# Altium integrated library Freescale Semiconductor DSC.IntLib: 124 symbols (part 5 of 7)
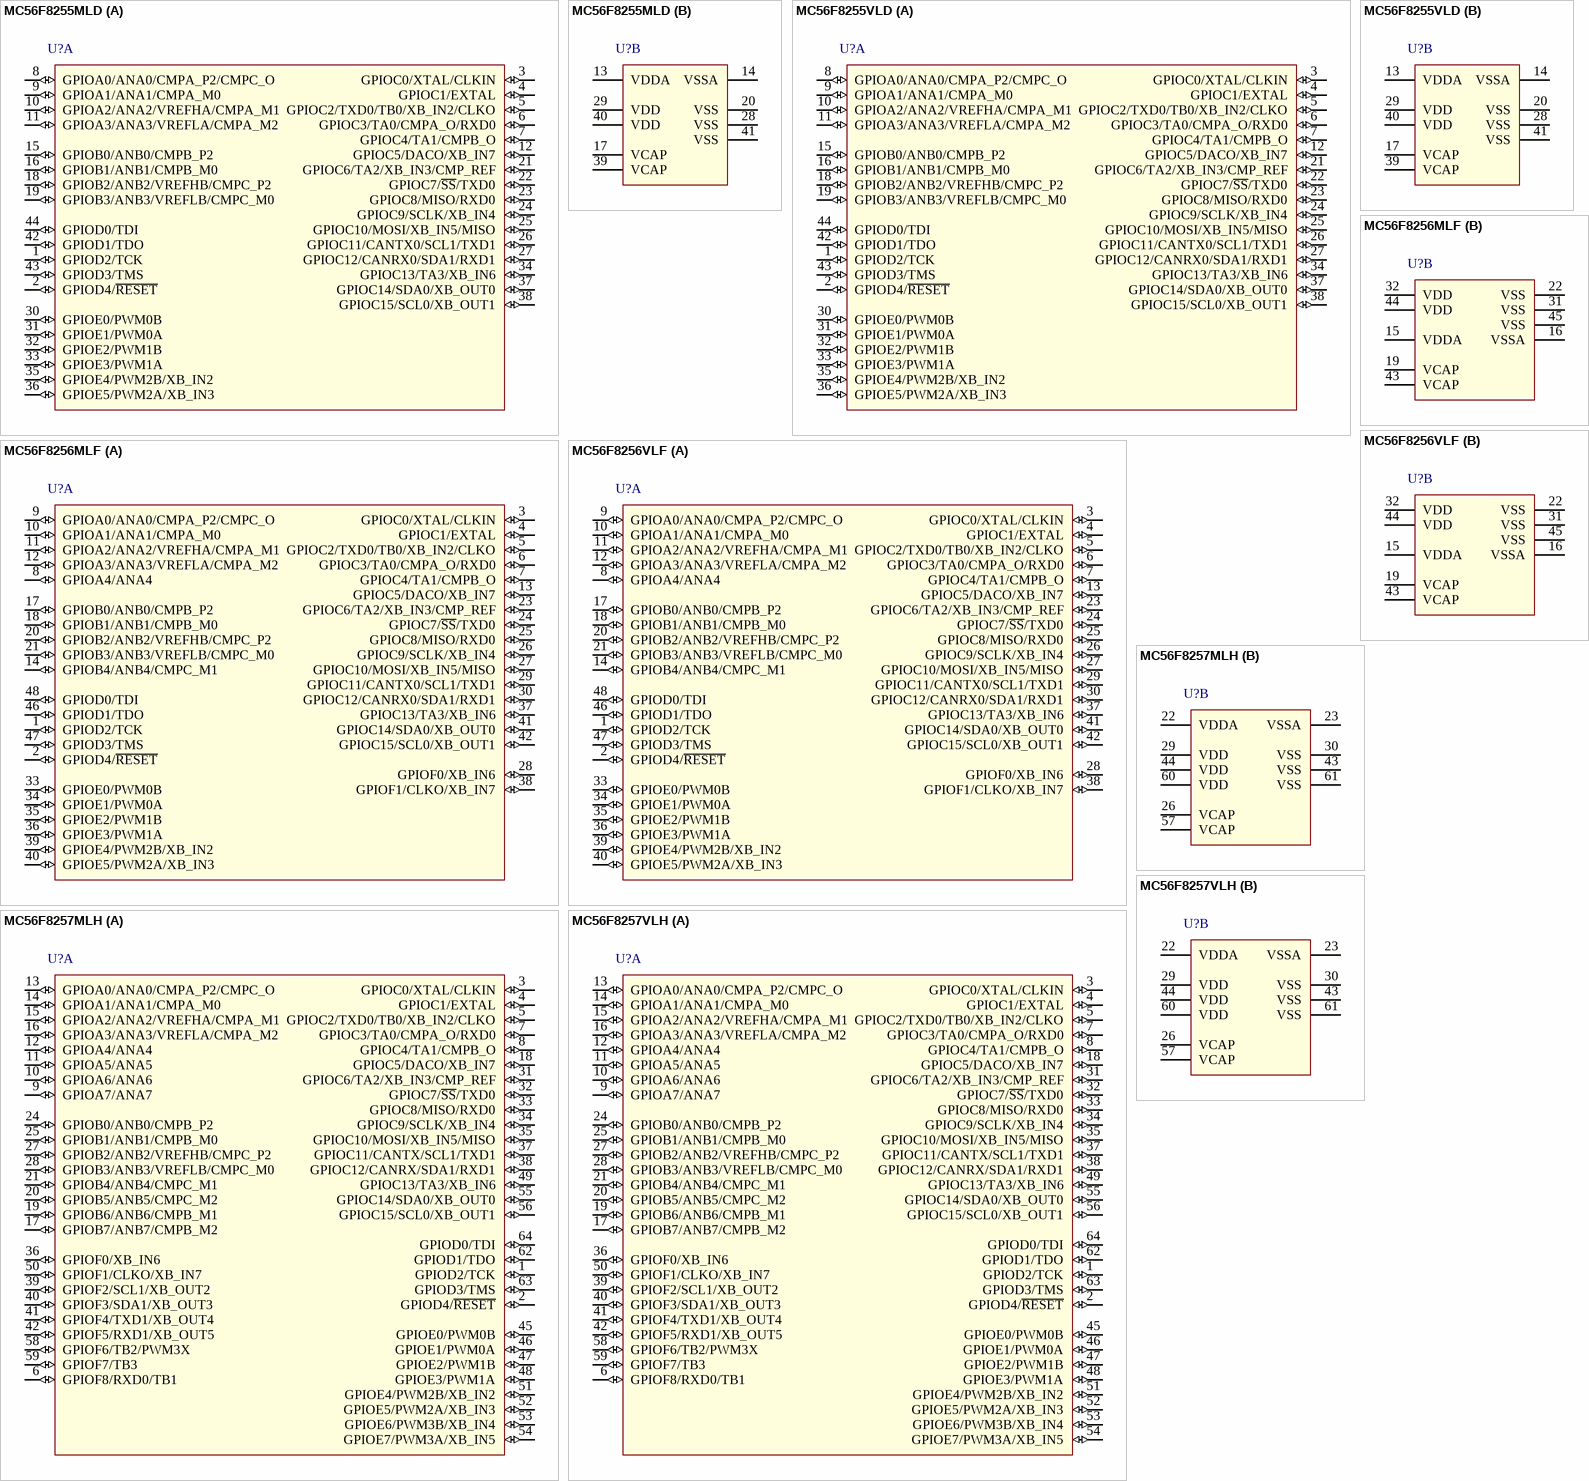
[diagram p38: symbols MC56F8255MLD to MC56F8257VLH]

## MC56F8257MLH
designator U?
16-Bit Digital Signal Controller, 56800E Family, 60MHz, 64KB Program Flash Memory, 8KB RAM, -40°C to 125°C, 64-Pin LQFP; DatasheetVersion: rev3, Apr-2011; PackageVersion: rev6, Mar-2011; PackageReference: 840F-02; PackageDescription: 64-Pin Thin Quad Flat Pack, 10 x 10 mm Body, 0.5 mm Pitch; ComponentLink1Description: Manufacturer URL; ComponentLink1URL: http://www.freescale.com/
footprint 840F-02_N (Thin QFP, 64-Leads, Body 10x10mm, Pitch 0.5mm, IPC Medium Density)
footprint 840F-02_L (Thin QFP, 64-Leads, Body 10x10mm, Pitch 0.5mm, IPC High Density)
footprint 840F-02_M (Thin QFP, 64-Leads, Body 10x10mm, Pitch 0.5mm, IPC Low Density)
part A pins: 1 GPIOD2/TCK (io), 2 GPIOD4/~{RESET} (io), 3 GPIOC0/XTAL/CLKIN (io), 4 GPIOC1/EXTAL (io), 5 GPIOC2/TXD0/TB0/XB_IN2/CLKO (io), 6 GPIOF8/RXD0/TB1 (io), 7 GPIOC3/TA0/CMPA_O/RXD0 (io), 8 GPIOC4/TA1/CMPB_O (io), 9 GPIOA7/ANA7 (io), 10 GPIOA6/ANA6 (io), 11 GPIOA5/ANA5 (io), 12 GPIOA4/ANA4 (io), 13 GPIOA0/ANA0/CMPA_P2/CMPC_O (io), 14 GPIOA1/ANA1/CMPA_M0 (io), 15 GPIOA2/ANA2/VREFHA/CMPA_M1 (io), 16 GPIOA3/ANA3/VREFLA/CMPA_M2 (io), 17 GPIOB7/ANB7/CMPB_M2 (io), 18 GPIOC5/DACO/XB_IN7 (io), 19 GPIOB6/ANB6/CMPB_M1 (io), 20 GPIOB5/ANB5/CMPC_M2 (io), 21 GPIOB4/ANB4/CMPC_M1 (io), 24 GPIOB0/ANB0/CMPB_P2 (io), 25 GPIOB1/ANB1/CMPB_M0 (io), 27 GPIOB2/ANB2/VREFHB/CMPC_P2 (io), 28 GPIOB3/ANB3/VREFLB/CMPC_M0 (io), 31 GPIOC6/TA2/XB_IN3/CMP_REF (io), 32 GPIOC7/~{SS}/TXD0 (io), 33 GPIOC8/MISO/RXD0 (io), 34 GPIOC9/SCLK/XB_IN4 (io), 35 GPIOC10/MOSI/XB_IN5/MISO (io), 36 GPIOF0/XB_IN6 (io), 37 GPIOC11/CANTX/SCL1/TXD1 (io), 38 GPIOC12/CANRX/SDA1/RXD1 (io), 39 GPIOF2/SCL1/XB_OUT2 (io), 40 GPIOF3/SDA1/XB_OUT3 (io), 41 GPIOF4/TXD1/XB_OUT4 (io), 42 GPIOF5/RXD1/XB_OUT5 (io), 45 GPIOE0/PWM0B (io), 46 GPIOE1/PWM0A (io), 47 GPIOE2/PWM1B (io), 48 GPIOE3/PWM1A (io), 49 GPIOC13/TA3/XB_IN6 (io), 50 GPIOF1/CLKO/XB_IN7 (io), 51 GPIOE4/PWM2B/XB_IN2 (io), 52 GPIOE5/PWM2A/XB_IN3 (io), 53 GPIOE6/PWM3B/XB_IN4 (io), 54 GPIOE7/PWM3A/XB_IN5 (io), 55 GPIOC14/SDA0/XB_OUT0 (io), 56 GPIOC15/SCL0/XB_OUT1 (io), 58 GPIOF6/TB2/PWM3X (io), 59 GPIOF7/TB3 (io), 62 GPIOD1/TDO (io), 63 GPIOD3/TMS (io), 64 GPIOD0/TDI (io)
part B pins: 22 VDDA (power), 23 VSSA (power), 26 VCAP (power), 29 VDD (power), 30 VSS (power), 43 VSS (power), 44 VDD (power), 57 VCAP (power), 60 VDD (power), 61 VSS (power)

## MC56F8257VLH
designator U?
16-Bit Digital Signal Controller, 56800E Family, 60MHz, 64KB Program Flash Memory, 8KB RAM, -40°C to 105°C, 64-Pin LQFP; DatasheetVersion: rev3, Apr-2011; PackageVersion: rev6, Mar-2011; PackageReference: 840F-02; PackageDescription: 64-Pin Thin Quad Flat Pack, 10 x 10 mm Body, 0.5 mm Pitch; ComponentLink1Description: Manufacturer URL; ComponentLink1URL: http://www.freescale.com/
footprint 840F-02_N (Thin QFP, 64-Leads, Body 10x10mm, Pitch 0.5mm, IPC Medium Density)
footprint 840F-02_L (Thin QFP, 64-Leads, Body 10x10mm, Pitch 0.5mm, IPC High Density)
footprint 840F-02_M (Thin QFP, 64-Leads, Body 10x10mm, Pitch 0.5mm, IPC Low Density)
part A pins: 1 GPIOD2/TCK (io), 2 GPIOD4/~{RESET} (io), 3 GPIOC0/XTAL/CLKIN (io), 4 GPIOC1/EXTAL (io), 5 GPIOC2/TXD0/TB0/XB_IN2/CLKO (io), 6 GPIOF8/RXD0/TB1 (io), 7 GPIOC3/TA0/CMPA_O/RXD0 (io), 8 GPIOC4/TA1/CMPB_O (io), 9 GPIOA7/ANA7 (io), 10 GPIOA6/ANA6 (io), 11 GPIOA5/ANA5 (io), 12 GPIOA4/ANA4 (io), 13 GPIOA0/ANA0/CMPA_P2/CMPC_O (io), 14 GPIOA1/ANA1/CMPA_M0 (io), 15 GPIOA2/ANA2/VREFHA/CMPA_M1 (io), 16 GPIOA3/ANA3/VREFLA/CMPA_M2 (io), 17 GPIOB7/ANB7/CMPB_M2 (io), 18 GPIOC5/DACO/XB_IN7 (io), 19 GPIOB6/ANB6/CMPB_M1 (io), 20 GPIOB5/ANB5/CMPC_M2 (io), 21 GPIOB4/ANB4/CMPC_M1 (io), 24 GPIOB0/ANB0/CMPB_P2 (io), 25 GPIOB1/ANB1/CMPB_M0 (io), 27 GPIOB2/ANB2/VREFHB/CMPC_P2 (io), 28 GPIOB3/ANB3/VREFLB/CMPC_M0 (io), 31 GPIOC6/TA2/XB_IN3/CMP_REF (io), 32 GPIOC7/~{SS}/TXD0 (io), 33 GPIOC8/MISO/RXD0 (io), 34 GPIOC9/SCLK/XB_IN4 (io), 35 GPIOC10/MOSI/XB_IN5/MISO (io), 36 GPIOF0/XB_IN6 (io), 37 GPIOC11/CANTX/SCL1/TXD1 (io), 38 GPIOC12/CANRX/SDA1/RXD1 (io), 39 GPIOF2/SCL1/XB_OUT2 (io), 40 GPIOF3/SDA1/XB_OUT3 (io), 41 GPIOF4/TXD1/XB_OUT4 (io), 42 GPIOF5/RXD1/XB_OUT5 (io), 45 GPIOE0/PWM0B (io), 46 GPIOE1/PWM0A (io), 47 GPIOE2/PWM1B (io), 48 GPIOE3/PWM1A (io), 49 GPIOC13/TA3/XB_IN6 (io), 50 GPIOF1/CLKO/XB_IN7 (io), 51 GPIOE4/PWM2B/XB_IN2 (io), 52 GPIOE5/PWM2A/XB_IN3 (io), 53 GPIOE6/PWM3B/XB_IN4 (io), 54 GPIOE7/PWM3A/XB_IN5 (io), 55 GPIOC14/SDA0/XB_OUT0 (io), 56 GPIOC15/SCL0/XB_OUT1 (io), 58 GPIOF6/TB2/PWM3X (io), 59 GPIOF7/TB3 (io), 62 GPIOD1/TDO (io), 63 GPIOD3/TMS (io), 64 GPIOD0/TDI (io)
part B pins: 22 VDDA (power), 23 VSSA (power), 26 VCAP (power), 29 VDD (power), 30 VSS (power), 43 VSS (power), 44 VDD (power), 57 VCAP (power), 60 VDD (power), 61 VSS (power)

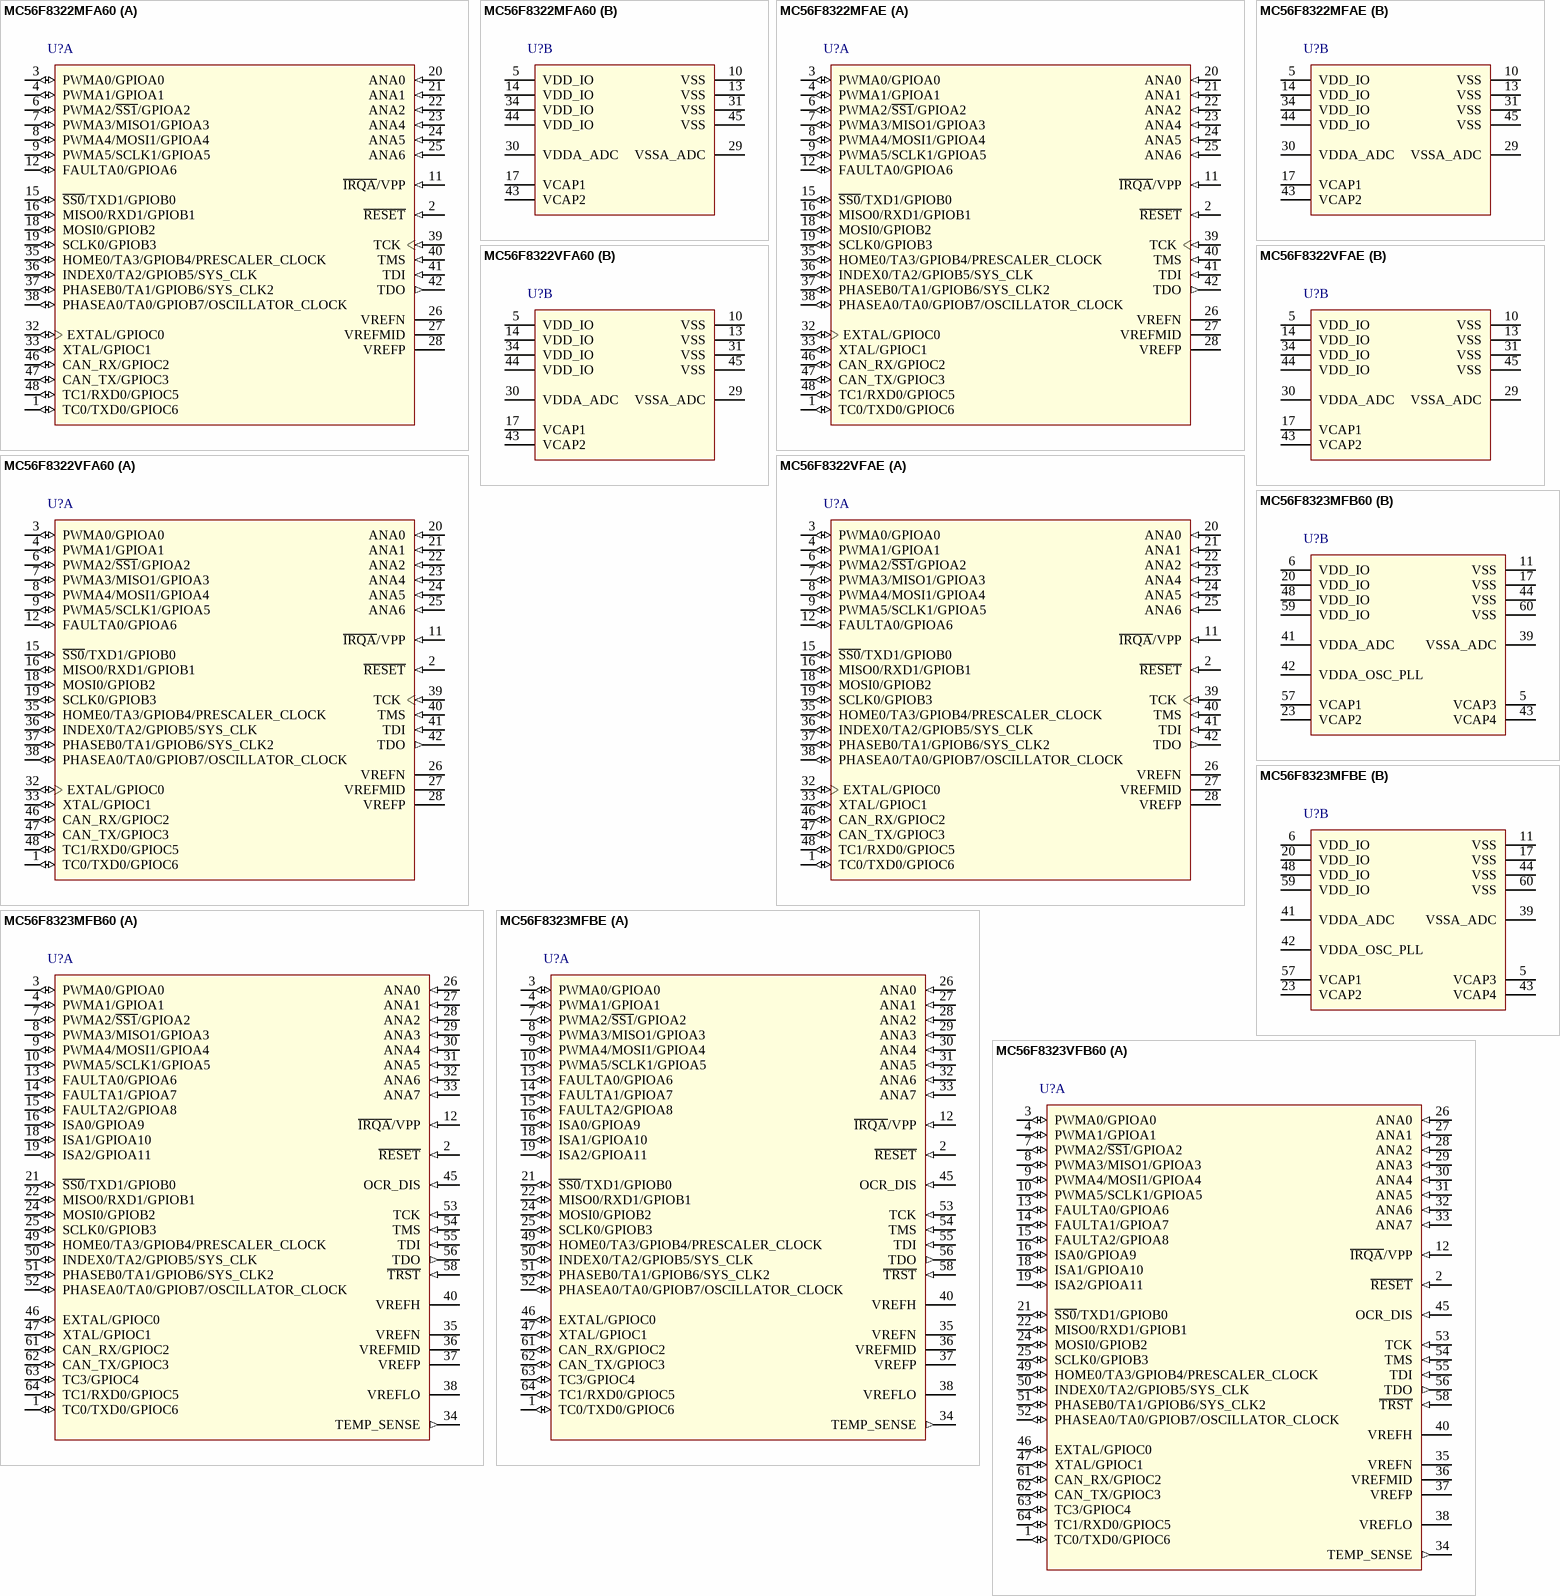
[diagram p20: symbols MC56F8322MFA60 to MC56F8323VFB60]

## MC56F8322MFA60
designator U?
16-Bit Digital Signal Controller, 56800E Family,  60 MHz, 12KB RAM, 48KB Flash, 3.0–3.6 V, -40° to + 125° C, 48-Pin LQFP; DatasheetVersion: rev16, Apr-2007; PackageVersion: revG, Apr-2005; PackageReference: 932-03; PackageDescription: LQFP, 48 Lead, 7 x 7 x 1.4mm, 0.5mm Pitch; Code_JEDEC: MS-026-BBC; ComponentLink1Description: Manufacturer URL; ComponentLink1URL: http://www.freescale.com/; ComponentLink2Description: Datasheet; ComponentLink2URL: http://cache.freescale.com/files/dsp/doc/data_sheet/MC56F8322.pdf?fpsp=1
footprint 932-03_N (Thin QFP, 48-Leads, Body 7x7mm, Pitch 0.5mm, IPC Medium Density)
footprint 932-03_L (Thin QFP, 48-Leads, Body 7x7mm, Pitch 0.5mm, IPC High Density)
footprint 932-03_M (Thin QFP, 48-Leads, Body 7x7mm, Pitch 0.5mm, IPC Low Density)
part A pins: 1 TC0/TXD0/GPIOC6 (io), 2 ~{RESET} (in), 3 PWMA0/GPIOA0 (io), 4 PWMA1/GPIOA1 (io), 6 PWMA2/~{SS1}/GPIOA2 (io), 7 PWMA3/MISO1/GPIOA3 (io), 8 PWMA4/MOSI1/GPIOA4 (io), 9 PWMA5/SCLK1/GPIOA5 (io), 11 ~{IRQA}/VPP (in), 12 FAULTA0/GPIOA6 (io), 15 ~{SS0}/TXD1/GPIOB0 (io), 16 MISO0/RXD1/GPIOB1 (io), 18 MOSI0/GPIOB2 (io), 19 SCLK0/GPIOB3 (io), 20 ANA0 (in), 21 ANA1 (in), 22 ANA2 (in), 23 ANA4 (in), 24 ANA5 (in), 25 ANA6 (in), 26 VREFN, 27 VREFMID, 28 VREFP, 32 EXTAL/GPIOC0 (io), 33 XTAL/GPIOC1 (io), 35 HOME0/TA3/GPIOB4/PRESCALER_CLOCK (io), 36 INDEX0/TA2/GPIOB5/SYS_CLK (io), 37 PHASEB0/TA1/GPIOB6/SYS_CLK2 (io), 38 PHASEA0/TA0/GPIOB7/OSCILLATOR_CLOCK (io), 39 TCK (in), 40 TMS (in), 41 TDI (in), 42 TDO (out), 46 CAN_RX/GPIOC2 (io), 47 CAN_TX/GPIOC3 (io), 48 TC1/RXD0/GPIOC5 (io)
part B pins: 5 VDD_IO (power), 10 VSS (power), 13 VSS (power), 14 VDD_IO (power), 17 VCAP1 (power), 29 VSSA_ADC (power), 30 VDDA_ADC (power), 31 VSS (power), 34 VDD_IO (power), 43 VCAP2 (power), 44 VDD_IO (power), 45 VSS (power)

## MC56F8322MFAE
designator U?
16-Bit Digital Signal Controller, 56800E Family,  60 MHz, 12KB RAM, 48KB Flash, 3.0–3.6 V, -40° to + 125° C, 48-Pin LQFP; DatasheetVersion: rev16, Apr-2007; PackageVersion: revG, Apr-2005; PackageReference: 932-03; PackageDescription: LQFP, 48 Lead, 7 x 7 x 1.4mm, 0.5mm Pitch; Code_JEDEC: MS-026-BBC; ComponentLink1Description: Manufacturer URL; ComponentLink1URL: http://www.freescale.com/; ComponentLink2Description: Datasheet; ComponentLink2URL: http://cache.freescale.com/files/dsp/doc/data_sheet/MC56F8322.pdf?fpsp=1
footprint 932-03_N (Thin QFP, 48-Leads, Body 7x7mm, Pitch 0.5mm, IPC Medium Density)
footprint 932-03_L (Thin QFP, 48-Leads, Body 7x7mm, Pitch 0.5mm, IPC High Density)
footprint 932-03_M (Thin QFP, 48-Leads, Body 7x7mm, Pitch 0.5mm, IPC Low Density)
part A pins: 1 TC0/TXD0/GPIOC6 (io), 2 ~{RESET} (in), 3 PWMA0/GPIOA0 (io), 4 PWMA1/GPIOA1 (io), 6 PWMA2/~{SS1}/GPIOA2 (io), 7 PWMA3/MISO1/GPIOA3 (io), 8 PWMA4/MOSI1/GPIOA4 (io), 9 PWMA5/SCLK1/GPIOA5 (io), 11 ~{IRQA}/VPP (in), 12 FAULTA0/GPIOA6 (io), 15 ~{SS0}/TXD1/GPIOB0 (io), 16 MISO0/RXD1/GPIOB1 (io), 18 MOSI0/GPIOB2 (io), 19 SCLK0/GPIOB3 (io), 20 ANA0 (in), 21 ANA1 (in), 22 ANA2 (in), 23 ANA4 (in), 24 ANA5 (in), 25 ANA6 (in), 26 VREFN, 27 VREFMID, 28 VREFP, 32 EXTAL/GPIOC0 (io), 33 XTAL/GPIOC1 (io), 35 HOME0/TA3/GPIOB4/PRESCALER_CLOCK (io), 36 INDEX0/TA2/GPIOB5/SYS_CLK (io), 37 PHASEB0/TA1/GPIOB6/SYS_CLK2 (io), 38 PHASEA0/TA0/GPIOB7/OSCILLATOR_CLOCK (io), 39 TCK (in), 40 TMS (in), 41 TDI (in), 42 TDO (out), 46 CAN_RX/GPIOC2 (io), 47 CAN_TX/GPIOC3 (io), 48 TC1/RXD0/GPIOC5 (io)
part B pins: 5 VDD_IO (power), 10 VSS (power), 13 VSS (power), 14 VDD_IO (power), 17 VCAP1 (power), 29 VSSA_ADC (power), 30 VDDA_ADC (power), 31 VSS (power), 34 VDD_IO (power), 43 VCAP2 (power), 44 VDD_IO (power), 45 VSS (power)

## MC56F8322VFA60
designator U?
16-Bit Digital Signal Controller, 56800E Family,  60 MHz, 12KB RAM, 48KB Flash, 3.0–3.6 V, -40° to + 105° C, 48-Pin LQFP; DatasheetVersion: rev16, Apr-2007; PackageVersion: revG, Apr-2005; PackageReference: 932-03; PackageDescription: LQFP, 48 Lead, 7 x 7 x 1.4mm, 0.5mm Pitch; Code_JEDEC: MS-026-BBC; ComponentLink1Description: Manufacturer URL; ComponentLink1URL: http://www.freescale.com/; ComponentLink2Description: Datasheet; ComponentLink2URL: http://cache.freescale.com/files/dsp/doc/data_sheet/MC56F8322.pdf?fpsp=1
footprint 932-03_N (Thin QFP, 48-Leads, Body 7x7mm, Pitch 0.5mm, IPC Medium Density)
footprint 932-03_L (Thin QFP, 48-Leads, Body 7x7mm, Pitch 0.5mm, IPC High Density)
footprint 932-03_M (Thin QFP, 48-Leads, Body 7x7mm, Pitch 0.5mm, IPC Low Density)
part A pins: 1 TC0/TXD0/GPIOC6 (io), 2 ~{RESET} (in), 3 PWMA0/GPIOA0 (io), 4 PWMA1/GPIOA1 (io), 6 PWMA2/~{SS1}/GPIOA2 (io), 7 PWMA3/MISO1/GPIOA3 (io), 8 PWMA4/MOSI1/GPIOA4 (io), 9 PWMA5/SCLK1/GPIOA5 (io), 11 ~{IRQA}/VPP (in), 12 FAULTA0/GPIOA6 (io), 15 ~{SS0}/TXD1/GPIOB0 (io), 16 MISO0/RXD1/GPIOB1 (io), 18 MOSI0/GPIOB2 (io), 19 SCLK0/GPIOB3 (io), 20 ANA0 (in), 21 ANA1 (in), 22 ANA2 (in), 23 ANA4 (in), 24 ANA5 (in), 25 ANA6 (in), 26 VREFN, 27 VREFMID, 28 VREFP, 32 EXTAL/GPIOC0 (io), 33 XTAL/GPIOC1 (io), 35 HOME0/TA3/GPIOB4/PRESCALER_CLOCK (io), 36 INDEX0/TA2/GPIOB5/SYS_CLK (io), 37 PHASEB0/TA1/GPIOB6/SYS_CLK2 (io), 38 PHASEA0/TA0/GPIOB7/OSCILLATOR_CLOCK (io), 39 TCK (in), 40 TMS (in), 41 TDI (in), 42 TDO (out), 46 CAN_RX/GPIOC2 (io), 47 CAN_TX/GPIOC3 (io), 48 TC1/RXD0/GPIOC5 (io)
part B pins: 5 VDD_IO (power), 10 VSS (power), 13 VSS (power), 14 VDD_IO (power), 17 VCAP1 (power), 29 VSSA_ADC (power), 30 VDDA_ADC (power), 31 VSS (power), 34 VDD_IO (power), 43 VCAP2 (power), 44 VDD_IO (power), 45 VSS (power)

## MC56F8322VFAE
designator U?
16-Bit Digital Signal Controller, 56800E Family,  60 MHz, 12KB RAM, 48KB Flash, 3.0–3.6 V, -40° to + 105° C, 48-Pin LQFP; DatasheetVersion: rev16, Apr-2007; PackageVersion: revG, Apr-2005; PackageReference: 932-03; PackageDescription: LQFP, 48 Lead, 7 x 7 x 1.4mm, 0.5mm Pitch; Code_JEDEC: MS-026-BBC; ComponentLink1Description: Manufacturer URL; ComponentLink1URL: http://www.freescale.com/; ComponentLink2Description: Datasheet; ComponentLink2URL: http://cache.freescale.com/files/dsp/doc/data_sheet/MC56F8322.pdf?fpsp=1
footprint 932-03_N (Thin QFP, 48-Leads, Body 7x7mm, Pitch 0.5mm, IPC Medium Density)
footprint 932-03_L (Thin QFP, 48-Leads, Body 7x7mm, Pitch 0.5mm, IPC High Density)
footprint 932-03_M (Thin QFP, 48-Leads, Body 7x7mm, Pitch 0.5mm, IPC Low Density)
part A pins: 1 TC0/TXD0/GPIOC6 (io), 2 ~{RESET} (in), 3 PWMA0/GPIOA0 (io), 4 PWMA1/GPIOA1 (io), 6 PWMA2/~{SS1}/GPIOA2 (io), 7 PWMA3/MISO1/GPIOA3 (io), 8 PWMA4/MOSI1/GPIOA4 (io), 9 PWMA5/SCLK1/GPIOA5 (io), 11 ~{IRQA}/VPP (in), 12 FAULTA0/GPIOA6 (io), 15 ~{SS0}/TXD1/GPIOB0 (io), 16 MISO0/RXD1/GPIOB1 (io), 18 MOSI0/GPIOB2 (io), 19 SCLK0/GPIOB3 (io), 20 ANA0 (in), 21 ANA1 (in), 22 ANA2 (in), 23 ANA4 (in), 24 ANA5 (in), 25 ANA6 (in), 26 VREFN, 27 VREFMID, 28 VREFP, 32 EXTAL/GPIOC0 (io), 33 XTAL/GPIOC1 (io), 35 HOME0/TA3/GPIOB4/PRESCALER_CLOCK (io), 36 INDEX0/TA2/GPIOB5/SYS_CLK (io), 37 PHASEB0/TA1/GPIOB6/SYS_CLK2 (io), 38 PHASEA0/TA0/GPIOB7/OSCILLATOR_CLOCK (io), 39 TCK (in), 40 TMS (in), 41 TDI (in), 42 TDO (out), 46 CAN_RX/GPIOC2 (io), 47 CAN_TX/GPIOC3 (io), 48 TC1/RXD0/GPIOC5 (io)
part B pins: 5 VDD_IO (power), 10 VSS (power), 13 VSS (power), 14 VDD_IO (power), 17 VCAP1 (power), 29 VSSA_ADC (power), 30 VDDA_ADC (power), 31 VSS (power), 34 VDD_IO (power), 43 VCAP2 (power), 44 VDD_IO (power), 45 VSS (power)

## MC56F8323MFB60
designator U?
16-Bit Digital Signal Controller, 56800E Family,  60 MHz, 12KB RAM, 32KB Flash, 3.0–3.6 V, -40° to + 125° C, 64-Pin LQFP; DatasheetVersion: rev17, Apr-2007; PackageVersion: rev6, Mar-2011; PackageReference: 840F-02; PackageDescription: 64-Pin Thin Quad Flat Pack, 10 x 10 mm Body, 0.5 mm Pitch; ComponentLink1Description: Manufacturer URL; ComponentLink1URL: http://www.freescale.com/; ComponentLink2Description: Datasheet; ComponentLink2URL: http://cache.freescale.com/files/dsp/doc/data_sheet/MC56F8323.pdf?fpsp=1
footprint 840F-02_N (Thin QFP, 64-Leads, Body 10x10mm, Pitch 0.5mm, IPC Medium Density)
footprint 840F-02_L (Thin QFP, 64-Leads, Body 10x10mm, Pitch 0.5mm, IPC High Density)
footprint 840F-02_M (Thin QFP, 64-Leads, Body 10x10mm, Pitch 0.5mm, IPC Low Density)
part A pins: 1 TC0/TXD0/GPIOC6 (io), 2 ~{RESET} (in), 3 PWMA0/GPIOA0 (io), 4 PWMA1/GPIOA1 (io), 7 PWMA2/~{SS1}/GPIOA2 (io), 8 PWMA3/MISO1/GPIOA3 (io), 9 PWMA4/MOSI1/GPIOA4 (io), 10 PWMA5/SCLK1/GPIOA5 (io), 12 ~{IRQA}/VPP (in), 13 FAULTA0/GPIOA6 (io), 14 FAULTA1/GPIOA7 (io), 15 FAULTA2/GPIOA8 (io), 16 ISA0/GPIOA9 (io), 18 ISA1/GPIOA10 (io), 19 ISA2/GPIOA11 (io), 21 ~{SS0}/TXD1/GPIOB0 (io), 22 MISO0/RXD1/GPIOB1 (io), 24 MOSI0/GPIOB2 (io), 25 SCLK0/GPIOB3 (io), 26 ANA0 (in), 27 ANA1 (in), 28 ANA2 (in), 29 ANA3 (in), 30 ANA4 (in), 31 ANA5 (in), 32 ANA6 (in), 33 ANA7 (in), 34 TEMP_SENSE (out), 35 VREFN, 36 VREFMID, 37 VREFP, 38 VREFLO, 40 VREFH, 45 OCR_DIS (in), 46 EXTAL/GPIOC0 (io), 47 XTAL/GPIOC1 (io), 49 HOME0/TA3/GPIOB4/PRESCALER_CLOCK (io), 50 INDEX0/TA2/GPIOB5/SYS_CLK (io), 51 PHASEB0/TA1/GPIOB6/SYS_CLK2 (io), 52 PHASEA0/TA0/GPIOB7/OSCILLATOR_CLOCK (io), 53 TCK (in), 54 TMS (in), 55 TDI (in), 56 TDO (out), 58 ~{TRST} (in), 61 CAN_RX/GPIOC2 (io), 62 CAN_TX/GPIOC3 (io), 63 TC3/GPIOC4 (io), 64 TC1/RXD0/GPIOC5 (io)
part B pins: 5 VCAP3 (power), 6 VDD_IO (power), 11 VSS (power), 17 VSS (power), 20 VDD_IO (power), 23 VCAP2 (power), 39 VSSA_ADC (power), 41 VDDA_ADC (power), 42 VDDA_OSC_PLL (power), 43 VCAP4 (power), 44 VSS (power), 48 VDD_IO (power), 57 VCAP1 (power), 59 VDD_IO (power), 60 VSS (power)

## MC56F8323MFBE
designator U?
16-Bit Digital Signal Controller, 56800E Family,  60 MHz, 12KB RAM, 32KB Flash, 3.0–3.6 V, -40° to + 125° C, 64-Pin LQFP; DatasheetVersion: rev17, Apr-2007; PackageVersion: rev6, Mar-2011; PackageReference: 840F-02; PackageDescription: 64-Pin Thin Quad Flat Pack, 10 x 10 mm Body, 0.5 mm Pitch; ComponentLink1Description: Manufacturer URL; ComponentLink1URL: http://www.freescale.com/; ComponentLink2Description: Datasheet; ComponentLink2URL: http://cache.freescale.com/files/dsp/doc/data_sheet/MC56F8323.pdf?fpsp=1
footprint 840F-02_N (Thin QFP, 64-Leads, Body 10x10mm, Pitch 0.5mm, IPC Medium Density)
footprint 840F-02_L (Thin QFP, 64-Leads, Body 10x10mm, Pitch 0.5mm, IPC High Density)
footprint 840F-02_M (Thin QFP, 64-Leads, Body 10x10mm, Pitch 0.5mm, IPC Low Density)
part A pins: 1 TC0/TXD0/GPIOC6 (io), 2 ~{RESET} (in), 3 PWMA0/GPIOA0 (io), 4 PWMA1/GPIOA1 (io), 7 PWMA2/~{SS1}/GPIOA2 (io), 8 PWMA3/MISO1/GPIOA3 (io), 9 PWMA4/MOSI1/GPIOA4 (io), 10 PWMA5/SCLK1/GPIOA5 (io), 12 ~{IRQA}/VPP (in), 13 FAULTA0/GPIOA6 (io), 14 FAULTA1/GPIOA7 (io), 15 FAULTA2/GPIOA8 (io), 16 ISA0/GPIOA9 (io), 18 ISA1/GPIOA10 (io), 19 ISA2/GPIOA11 (io), 21 ~{SS0}/TXD1/GPIOB0 (io), 22 MISO0/RXD1/GPIOB1 (io), 24 MOSI0/GPIOB2 (io), 25 SCLK0/GPIOB3 (io), 26 ANA0 (in), 27 ANA1 (in), 28 ANA2 (in), 29 ANA3 (in), 30 ANA4 (in), 31 ANA5 (in), 32 ANA6 (in), 33 ANA7 (in), 34 TEMP_SENSE (out), 35 VREFN, 36 VREFMID, 37 VREFP, 38 VREFLO, 40 VREFH, 45 OCR_DIS (in), 46 EXTAL/GPIOC0 (io), 47 XTAL/GPIOC1 (io), 49 HOME0/TA3/GPIOB4/PRESCALER_CLOCK (io), 50 INDEX0/TA2/GPIOB5/SYS_CLK (io), 51 PHASEB0/TA1/GPIOB6/SYS_CLK2 (io), 52 PHASEA0/TA0/GPIOB7/OSCILLATOR_CLOCK (io), 53 TCK (in), 54 TMS (in), 55 TDI (in), 56 TDO (out), 58 ~{TRST} (in), 61 CAN_RX/GPIOC2 (io), 62 CAN_TX/GPIOC3 (io), 63 TC3/GPIOC4 (io), 64 TC1/RXD0/GPIOC5 (io)
part B pins: 5 VCAP3 (power), 6 VDD_IO (power), 11 VSS (power), 17 VSS (power), 20 VDD_IO (power), 23 VCAP2 (power), 39 VSSA_ADC (power), 41 VDDA_ADC (power), 42 VDDA_OSC_PLL (power), 43 VCAP4 (power), 44 VSS (power), 48 VDD_IO (power), 57 VCAP1 (power), 59 VDD_IO (power), 60 VSS (power)

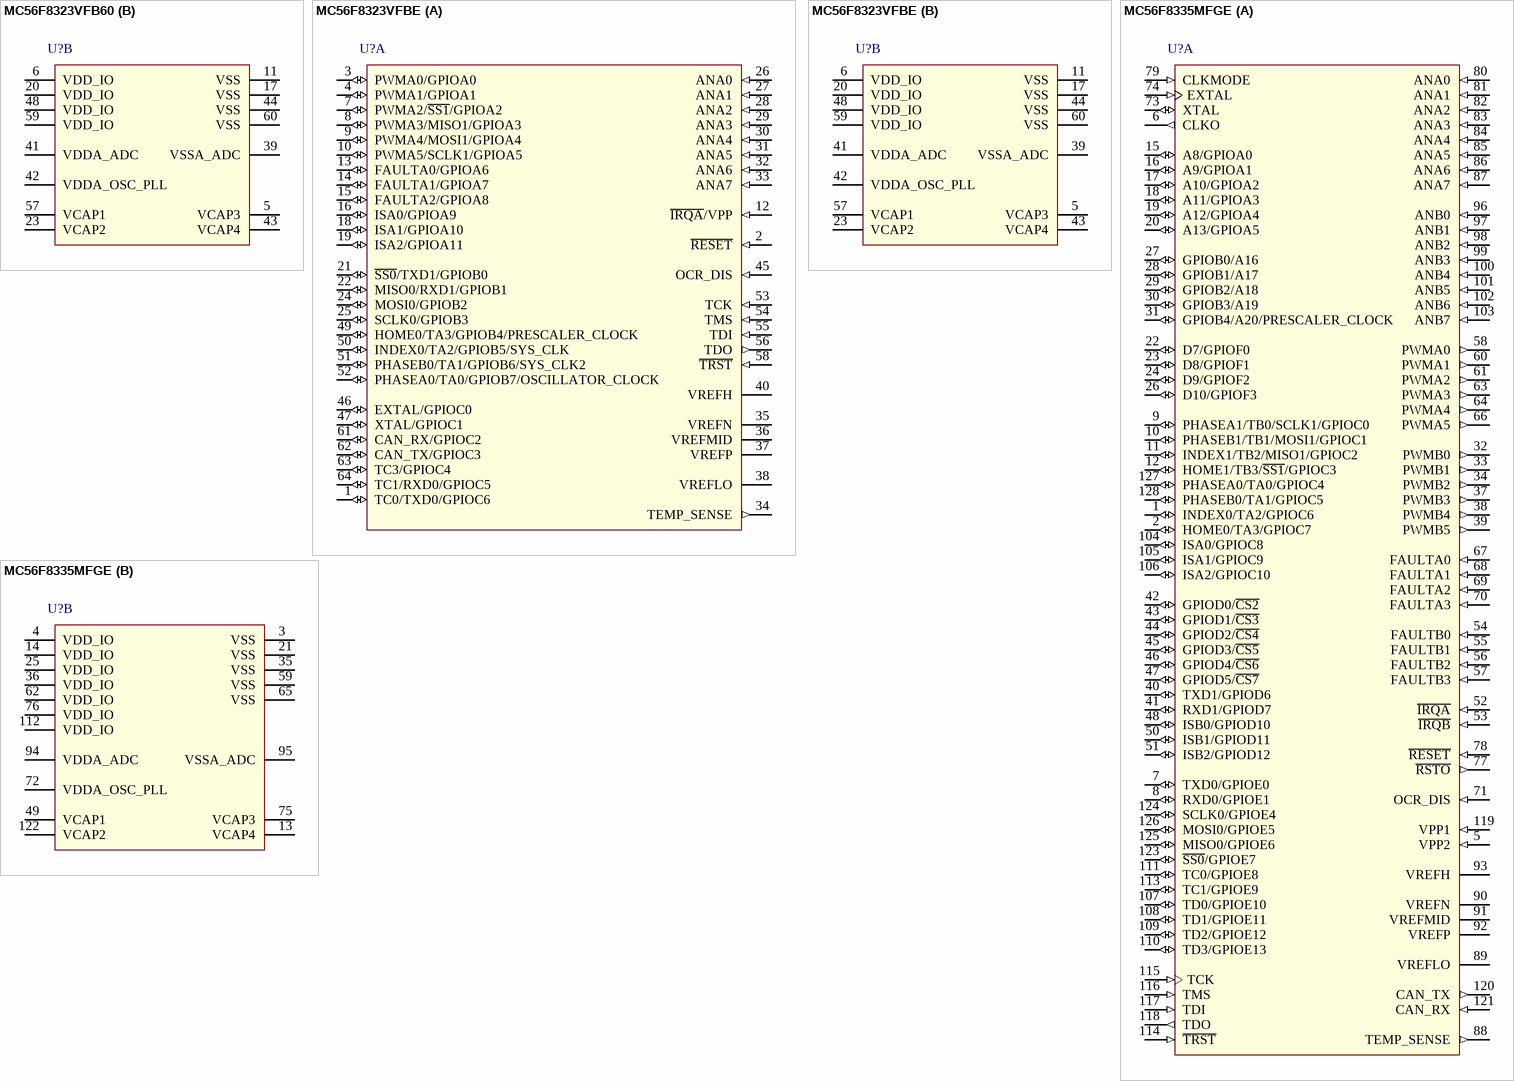
[diagram p21: symbols MC56F8323VFB60 to MC56F8335MFGE]

## MC56F8323VFB60
designator U?
16-Bit Digital Signal Controller, 56800E Family,  60 MHz, 12KB RAM, 32KB Flash, 3.0–3.6 V, -40° to + 105° C, 64-Pin LQFP; DatasheetVersion: rev17, Apr-2007; PackageVersion: rev6, Mar-2011; PackageReference: 840F-02; PackageDescription: 64-Pin Thin Quad Flat Pack, 10 x 10 mm Body, 0.5 mm Pitch; ComponentLink1Description: Manufacturer URL; ComponentLink1URL: http://www.freescale.com/; ComponentLink2Description: Datasheet; ComponentLink2URL: http://cache.freescale.com/files/dsp/doc/data_sheet/MC56F8323.pdf?fpsp=1
footprint 840F-02_N (Thin QFP, 64-Leads, Body 10x10mm, Pitch 0.5mm, IPC Medium Density)
footprint 840F-02_L (Thin QFP, 64-Leads, Body 10x10mm, Pitch 0.5mm, IPC High Density)
footprint 840F-02_M (Thin QFP, 64-Leads, Body 10x10mm, Pitch 0.5mm, IPC Low Density)
part A pins: 1 TC0/TXD0/GPIOC6 (io), 2 ~{RESET} (in), 3 PWMA0/GPIOA0 (io), 4 PWMA1/GPIOA1 (io), 7 PWMA2/~{SS1}/GPIOA2 (io), 8 PWMA3/MISO1/GPIOA3 (io), 9 PWMA4/MOSI1/GPIOA4 (io), 10 PWMA5/SCLK1/GPIOA5 (io), 12 ~{IRQA}/VPP (in), 13 FAULTA0/GPIOA6 (io), 14 FAULTA1/GPIOA7 (io), 15 FAULTA2/GPIOA8 (io), 16 ISA0/GPIOA9 (io), 18 ISA1/GPIOA10 (io), 19 ISA2/GPIOA11 (io), 21 ~{SS0}/TXD1/GPIOB0 (io), 22 MISO0/RXD1/GPIOB1 (io), 24 MOSI0/GPIOB2 (io), 25 SCLK0/GPIOB3 (io), 26 ANA0 (in), 27 ANA1 (in), 28 ANA2 (in), 29 ANA3 (in), 30 ANA4 (in), 31 ANA5 (in), 32 ANA6 (in), 33 ANA7 (in), 34 TEMP_SENSE (out), 35 VREFN, 36 VREFMID, 37 VREFP, 38 VREFLO, 40 VREFH, 45 OCR_DIS (in), 46 EXTAL/GPIOC0 (io), 47 XTAL/GPIOC1 (io), 49 HOME0/TA3/GPIOB4/PRESCALER_CLOCK (io), 50 INDEX0/TA2/GPIOB5/SYS_CLK (io), 51 PHASEB0/TA1/GPIOB6/SYS_CLK2 (io), 52 PHASEA0/TA0/GPIOB7/OSCILLATOR_CLOCK (io), 53 TCK (in), 54 TMS (in), 55 TDI (in), 56 TDO (out), 58 ~{TRST} (in), 61 CAN_RX/GPIOC2 (io), 62 CAN_TX/GPIOC3 (io), 63 TC3/GPIOC4 (io), 64 TC1/RXD0/GPIOC5 (io)
part B pins: 5 VCAP3 (power), 6 VDD_IO (power), 11 VSS (power), 17 VSS (power), 20 VDD_IO (power), 23 VCAP2 (power), 39 VSSA_ADC (power), 41 VDDA_ADC (power), 42 VDDA_OSC_PLL (power), 43 VCAP4 (power), 44 VSS (power), 48 VDD_IO (power), 57 VCAP1 (power), 59 VDD_IO (power), 60 VSS (power)

## MC56F8323VFBE
designator U?
16-Bit Digital Signal Controller, 56800E Family,  60 MHz, 12KB RAM, 32KB Flash, 3.0–3.6 V, -40° to + 105° C, 64-Pin LQFP; DatasheetVersion: rev17, Apr-2007; PackageVersion: rev6, Mar-2011; PackageReference: 840F-02; PackageDescription: 64-Pin Thin Quad Flat Pack, 10 x 10 mm Body, 0.5 mm Pitch; ComponentLink1Description: Manufacturer URL; ComponentLink1URL: http://www.freescale.com/; ComponentLink2Description: Datasheet; ComponentLink2URL: http://cache.freescale.com/files/dsp/doc/data_sheet/MC56F8323.pdf?fpsp=1
footprint 840F-02_N (Thin QFP, 64-Leads, Body 10x10mm, Pitch 0.5mm, IPC Medium Density)
footprint 840F-02_L (Thin QFP, 64-Leads, Body 10x10mm, Pitch 0.5mm, IPC High Density)
footprint 840F-02_M (Thin QFP, 64-Leads, Body 10x10mm, Pitch 0.5mm, IPC Low Density)
part A pins: 1 TC0/TXD0/GPIOC6 (io), 2 ~{RESET} (in), 3 PWMA0/GPIOA0 (io), 4 PWMA1/GPIOA1 (io), 7 PWMA2/~{SS1}/GPIOA2 (io), 8 PWMA3/MISO1/GPIOA3 (io), 9 PWMA4/MOSI1/GPIOA4 (io), 10 PWMA5/SCLK1/GPIOA5 (io), 12 ~{IRQA}/VPP (in), 13 FAULTA0/GPIOA6 (io), 14 FAULTA1/GPIOA7 (io), 15 FAULTA2/GPIOA8 (io), 16 ISA0/GPIOA9 (io), 18 ISA1/GPIOA10 (io), 19 ISA2/GPIOA11 (io), 21 ~{SS0}/TXD1/GPIOB0 (io), 22 MISO0/RXD1/GPIOB1 (io), 24 MOSI0/GPIOB2 (io), 25 SCLK0/GPIOB3 (io), 26 ANA0 (in), 27 ANA1 (in), 28 ANA2 (in), 29 ANA3 (in), 30 ANA4 (in), 31 ANA5 (in), 32 ANA6 (in), 33 ANA7 (in), 34 TEMP_SENSE (out), 35 VREFN, 36 VREFMID, 37 VREFP, 38 VREFLO, 40 VREFH, 45 OCR_DIS (in), 46 EXTAL/GPIOC0 (io), 47 XTAL/GPIOC1 (io), 49 HOME0/TA3/GPIOB4/PRESCALER_CLOCK (io), 50 INDEX0/TA2/GPIOB5/SYS_CLK (io), 51 PHASEB0/TA1/GPIOB6/SYS_CLK2 (io), 52 PHASEA0/TA0/GPIOB7/OSCILLATOR_CLOCK (io), 53 TCK (in), 54 TMS (in), 55 TDI (in), 56 TDO (out), 58 ~{TRST} (in), 61 CAN_RX/GPIOC2 (io), 62 CAN_TX/GPIOC3 (io), 63 TC3/GPIOC4 (io), 64 TC1/RXD0/GPIOC5 (io)
part B pins: 5 VCAP3 (power), 6 VDD_IO (power), 11 VSS (power), 17 VSS (power), 20 VDD_IO (power), 23 VCAP2 (power), 39 VSSA_ADC (power), 41 VDDA_ADC (power), 42 VDDA_OSC_PLL (power), 43 VCAP4 (power), 44 VSS (power), 48 VDD_IO (power), 57 VCAP1 (power), 59 VDD_IO (power), 60 VSS (power)

## MC56F8335MFGE
designator U?
16-Bit Digital Signal Controller, 56800E Family,  60 MHz, 12KB RAM, 64KB Flash, 3.0–3.6 V, -40° to + 125° C, 128-Pin LQFP; DatasheetVersion: rev5, Jan-2007; PackageVersion: 12/12/1994; PackageReference: 1129-01; PackageDescription: 128-Pin Thin Quad Flat Pack Rectangular 0.5 mm Pitch; ComponentLink1Description: Manufacturer URL; ComponentLink1URL: http://www.freescale.com/; ComponentLink2Description: Datasheet; ComponentLink2URL: http://cache.freescale.com/files/dsp/doc/data_sheet/MC56F8335.pdf
footprint 1129-01_N (Thin QFP, 128-Leads, Body 20x14 mm, Pitch 0.5mm, IPC Medium Density)
footprint 1129-01_L (Thin QFP, 128-Leads, Body 20x14 mm, Pitch 0.5mm, IPC High Density)
footprint 1129-01_M (Thin QFP, 128-Leads, Body 20x14 mm, Pitch 0.5mm, IPC Low Density)
part A pins: 1 INDEX0/TA2/GPIOC6 (io), 2 HOME0/TA3/GPIOC7 (io), 5 VPP2 (in), 6 CLKO (out), 7 TXD0/GPIOE0 (io), 8 RXD0/GPIOE1 (io), 9 PHASEA1/TB0/SCLK1/GPIOC0 (io), 10 PHASEB1/TB1/MOSI1/GPIOC1 (io), 11 INDEX1/TB2/MISO1/GPIOC2 (io), 12 HOME1/TB3/~{SS1}/GPIOC3 (io), 15 A8/GPIOA0 (io), 16 A9/GPIOA1 (io), 17 A10/GPIOA2 (io), 18 A11/GPIOA3 (io), 19 A12/GPIOA4 (io), 20 A13/GPIOA5 (io), 22 D7/GPIOF0 (io), 23 D8/GPIOF1 (io), 24 D9/GPIOF2 (io), 26 D10/GPIOF3 (io), 27 GPIOB0/A16 (io), 28 GPIOB1/A17 (io), 29 GPIOB2/A18 (io), 30 GPIOB3/A19 (io), 31 GPIOB4/A20/PRESCALER_CLOCK (io), 32 PWMB0 (out), 33 PWMB1 (out), 34 PWMB2 (out), 37 PWMB3 (out), 38 PWMB4 (out), 39 PWMB5 (out), 40 TXD1/GPIOD6 (io), 41 RXD1/GPIOD7 (io), 42 GPIOD0/~{CS2} (io), 43 GPIOD1/~{CS3} (io), 44 GPIOD2/~{CS4} (io), 45 GPIOD3/~{CS5} (io), 46 GPIOD4/~{CS6} (io), 47 GPIOD5/~{CS7} (io), 48 ISB0/GPIOD10 (io), 50 ISB1/GPIOD11 (io), 51 ISB2/GPIOD12 (io), 52 ~{IRQA} (in), 53 ~{IRQB} (in), 54 FAULTB0 (in), 55 FAULTB1 (in), 56 FAULTB2 (in), 57 FAULTB3 (in), 58 PWMA0 (out), 60 PWMA1 (out), 61 PWMA2 (out), 63 PWMA3 (out), 64 PWMA4 (out), 66 PWMA5 (out), 67 FAULTA0 (in), 68 FAULTA1 (in), 69 FAULTA2 (in), 70 FAULTA3 (in), 71 OCR_DIS (in), 73 XTAL (io), 74 EXTAL (in), 77 ~{RSTO} (out), 78 ~{RESET} (in), 79 CLKMODE (in), 80 ANA0 (in), 81 ANA1 (in), 82 ANA2 (in), 83 ANA3 (in), 84 ANA4 (in), 85 ANA5 (in), 86 ANA6 (in), 87 ANA7 (in), 88 TEMP_SENSE (out), 89 VREFLO (power), 90 VREFN (power), 91 VREFMID (power), 92 VREFP (power), 93 VREFH (power), 96 ANB0 (in), 97 ANB1 (in), 98 ANB2 (in), 99 ANB3 (in), 100 ANB4 (in), 101 ANB5 (in), 102 ANB6 (in), 103 ANB7 (in), 104 ISA0/GPIOC8 (io), 105 ISA1/GPIOC9 (io), 106 ISA2/GPIOC10 (io), 107 TD0/GPIOE10 (io), 108 TD1/GPIOE11 (io), 109 TD2/GPIOE12 (io), 110 TD3/GPIOE13 (io), 111 TC0/GPIOE8 (io), 113 TC1/GPIOE9 (io), 114 ~{TRST} (in), 115 TCK (in), 116 TMS (in), 117 TDI (in), 118 TDO (out), 119 VPP1 (in), 120 CAN_TX (out), 121 CAN_RX (in), 123 ~{SS0}/GPIOE7 (io), 124 SCLK0/GPIOE4 (io), 125 MISO0/GPIOE6 (io), 126 MOSI0/GPIOE5 (io), 127 PHASEA0/TA0/GPIOC4 (io), 128 PHASEB0/TA1/GPIOC5 (io)
part B pins: 3 VSS (power), 4 VDD_IO (power), 13 VCAP4 (power), 14 VDD_IO (power), 21 VSS (power), 25 VDD_IO (power), 35 VSS (power), 36 VDD_IO (power), 49 VCAP1 (power), 59 VSS (power), 62 VDD_IO (power), 65 VSS (power), 72 VDDA_OSC_PLL (power), 75 VCAP3 (power), 76 VDD_IO (power), 94 VDDA_ADC (power), 95 VSSA_ADC (power), 112 VDD_IO (power), 122 VCAP2 (power)

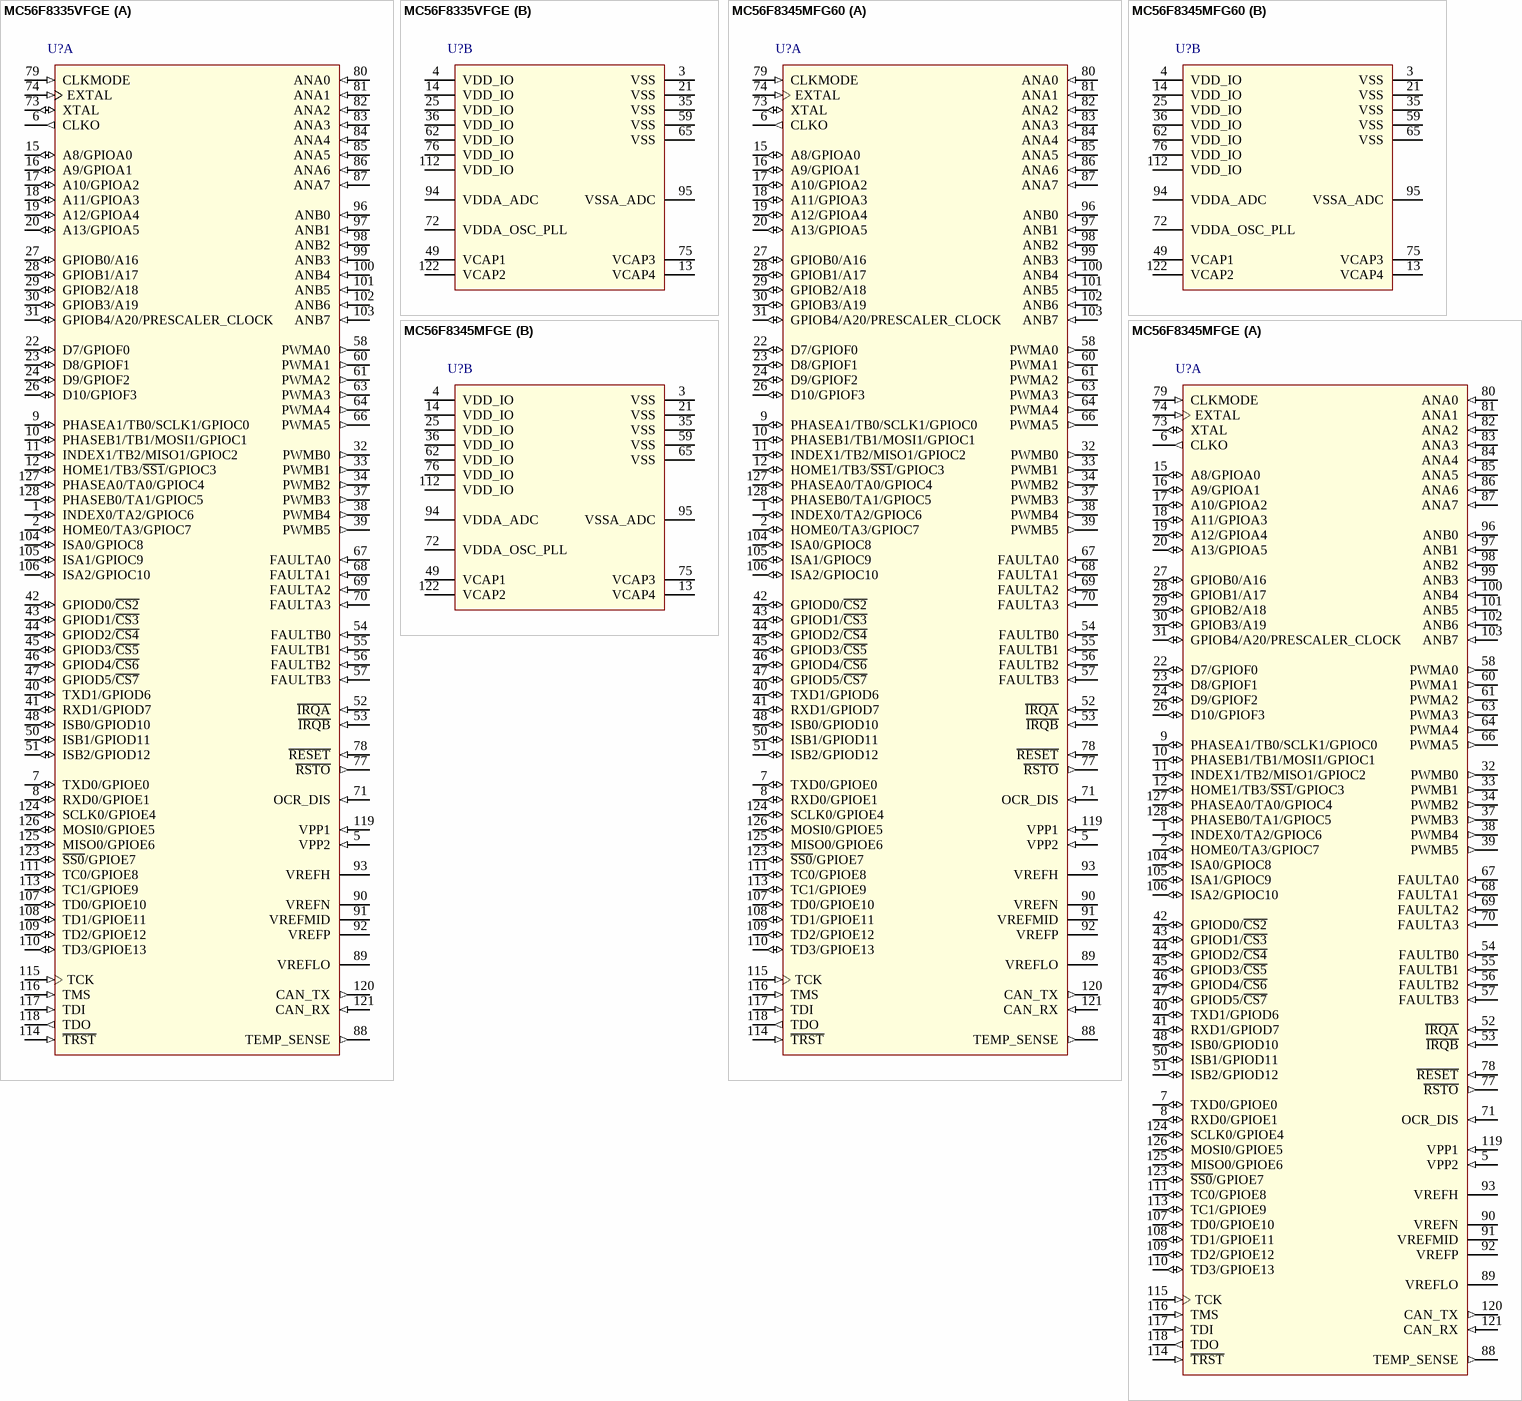
[diagram p22: symbols MC56F8335VFGE to MC56F8345MFGE]

## MC56F8335VFGE
designator U?
16-Bit Digital Signal Controller, 56800E Family,  60 MHz, 12KB RAM, 64KB Flash, 3.0–3.6 V, -40° to + 105° C, 128-Pin LQFP; DatasheetVersion: rev5, Jan-2007; PackageVersion: 12/12/1994; PackageReference: 1129-01; PackageDescription: 128-Pin Thin Quad Flat Pack Rectangular 0.5 mm Pitch; ComponentLink1Description: Manufacturer URL; ComponentLink1URL: http://www.freescale.com/; ComponentLink2Description: Datasheet; ComponentLink2URL: http://cache.freescale.com/files/dsp/doc/data_sheet/MC56F8335.pdf
footprint 1129-01_N (Thin QFP, 128-Leads, Body 20x14 mm, Pitch 0.5mm, IPC Medium Density)
footprint 1129-01_L (Thin QFP, 128-Leads, Body 20x14 mm, Pitch 0.5mm, IPC High Density)
footprint 1129-01_M (Thin QFP, 128-Leads, Body 20x14 mm, Pitch 0.5mm, IPC Low Density)
part A pins: 1 INDEX0/TA2/GPIOC6 (io), 2 HOME0/TA3/GPIOC7 (io), 5 VPP2 (in), 6 CLKO (out), 7 TXD0/GPIOE0 (io), 8 RXD0/GPIOE1 (io), 9 PHASEA1/TB0/SCLK1/GPIOC0 (io), 10 PHASEB1/TB1/MOSI1/GPIOC1 (io), 11 INDEX1/TB2/MISO1/GPIOC2 (io), 12 HOME1/TB3/~{SS1}/GPIOC3 (io), 15 A8/GPIOA0 (io), 16 A9/GPIOA1 (io), 17 A10/GPIOA2 (io), 18 A11/GPIOA3 (io), 19 A12/GPIOA4 (io), 20 A13/GPIOA5 (io), 22 D7/GPIOF0 (io), 23 D8/GPIOF1 (io), 24 D9/GPIOF2 (io), 26 D10/GPIOF3 (io), 27 GPIOB0/A16 (io), 28 GPIOB1/A17 (io), 29 GPIOB2/A18 (io), 30 GPIOB3/A19 (io), 31 GPIOB4/A20/PRESCALER_CLOCK (io), 32 PWMB0 (out), 33 PWMB1 (out), 34 PWMB2 (out), 37 PWMB3 (out), 38 PWMB4 (out), 39 PWMB5 (out), 40 TXD1/GPIOD6 (io), 41 RXD1/GPIOD7 (io), 42 GPIOD0/~{CS2} (io), 43 GPIOD1/~{CS3} (io), 44 GPIOD2/~{CS4} (io), 45 GPIOD3/~{CS5} (io), 46 GPIOD4/~{CS6} (io), 47 GPIOD5/~{CS7} (io), 48 ISB0/GPIOD10 (io), 50 ISB1/GPIOD11 (io), 51 ISB2/GPIOD12 (io), 52 ~{IRQA} (in), 53 ~{IRQB} (in), 54 FAULTB0 (in), 55 FAULTB1 (in), 56 FAULTB2 (in), 57 FAULTB3 (in), 58 PWMA0 (out), 60 PWMA1 (out), 61 PWMA2 (out), 63 PWMA3 (out), 64 PWMA4 (out), 66 PWMA5 (out), 67 FAULTA0 (in), 68 FAULTA1 (in), 69 FAULTA2 (in), 70 FAULTA3 (in), 71 OCR_DIS (in), 73 XTAL (io), 74 EXTAL (in), 77 ~{RSTO} (out), 78 ~{RESET} (in), 79 CLKMODE (in), 80 ANA0 (in), 81 ANA1 (in), 82 ANA2 (in), 83 ANA3 (in), 84 ANA4 (in), 85 ANA5 (in), 86 ANA6 (in), 87 ANA7 (in), 88 TEMP_SENSE (out), 89 VREFLO (power), 90 VREFN (power), 91 VREFMID (power), 92 VREFP (power), 93 VREFH (power), 96 ANB0 (in), 97 ANB1 (in), 98 ANB2 (in), 99 ANB3 (in), 100 ANB4 (in), 101 ANB5 (in), 102 ANB6 (in), 103 ANB7 (in), 104 ISA0/GPIOC8 (io), 105 ISA1/GPIOC9 (io), 106 ISA2/GPIOC10 (io), 107 TD0/GPIOE10 (io), 108 TD1/GPIOE11 (io), 109 TD2/GPIOE12 (io), 110 TD3/GPIOE13 (io), 111 TC0/GPIOE8 (io), 113 TC1/GPIOE9 (io), 114 ~{TRST} (in), 115 TCK (in), 116 TMS (in), 117 TDI (in), 118 TDO (out), 119 VPP1 (in), 120 CAN_TX (out), 121 CAN_RX (in), 123 ~{SS0}/GPIOE7 (io), 124 SCLK0/GPIOE4 (io), 125 MISO0/GPIOE6 (io), 126 MOSI0/GPIOE5 (io), 127 PHASEA0/TA0/GPIOC4 (io), 128 PHASEB0/TA1/GPIOC5 (io)
part B pins: 3 VSS (power), 4 VDD_IO (power), 13 VCAP4 (power), 14 VDD_IO (power), 21 VSS (power), 25 VDD_IO (power), 35 VSS (power), 36 VDD_IO (power), 49 VCAP1 (power), 59 VSS (power), 62 VDD_IO (power), 65 VSS (power), 72 VDDA_OSC_PLL (power), 75 VCAP3 (power), 76 VDD_IO (power), 94 VDDA_ADC (power), 95 VSSA_ADC (power), 112 VDD_IO (power), 122 VCAP2 (power)

## MC56F8345MFG60
designator U?
16-Bit Digital Signal Controller, 56800E Family,  60 MHz, 12KB RAM, 128KB Flash, 3.0–3.6 V, -40° to + 125° C, 128-Pin LQFP; DatasheetVersion: rev17, Jan-2007; PackageVersion: 12/12/1994; PackageReference: 1129-01; PackageDescription: 128-Pin Thin Quad Flat Pack Rectangular 0.5 mm Pitch; ComponentLink1Description: Manufacturer URL; ComponentLink1URL: http://www.freescale.com/; ComponentLink2Description: Datasheet; ComponentLink2URL: http://cache.freescale.com/files/dsp/doc/data_sheet/MC56F8345.pdf?fpsp=1
footprint 1129-01_N (Thin QFP, 128-Leads, Body 20x14 mm, Pitch 0.5mm, IPC Medium Density)
footprint 1129-01_L (Thin QFP, 128-Leads, Body 20x14 mm, Pitch 0.5mm, IPC High Density)
footprint 1129-01_M (Thin QFP, 128-Leads, Body 20x14 mm, Pitch 0.5mm, IPC Low Density)
part A pins: 1 INDEX0/TA2/GPIOC6 (io), 2 HOME0/TA3/GPIOC7 (io), 5 VPP2 (in), 6 CLKO (out), 7 TXD0/GPIOE0 (io), 8 RXD0/GPIOE1 (io), 9 PHASEA1/TB0/SCLK1/GPIOC0 (io), 10 PHASEB1/TB1/MOSI1/GPIOC1 (io), 11 INDEX1/TB2/MISO1/GPIOC2 (io), 12 HOME1/TB3/~{SS1}/GPIOC3 (io), 15 A8/GPIOA0 (io), 16 A9/GPIOA1 (io), 17 A10/GPIOA2 (io), 18 A11/GPIOA3 (io), 19 A12/GPIOA4 (io), 20 A13/GPIOA5 (io), 22 D7/GPIOF0 (io), 23 D8/GPIOF1 (io), 24 D9/GPIOF2 (io), 26 D10/GPIOF3 (io), 27 GPIOB0/A16 (io), 28 GPIOB1/A17 (io), 29 GPIOB2/A18 (io), 30 GPIOB3/A19 (io), 31 GPIOB4/A20/PRESCALER_CLOCK (io), 32 PWMB0 (out), 33 PWMB1 (out), 34 PWMB2 (out), 37 PWMB3 (out), 38 PWMB4 (out), 39 PWMB5 (out), 40 TXD1/GPIOD6 (io), 41 RXD1/GPIOD7 (io), 42 GPIOD0/~{CS2} (io), 43 GPIOD1/~{CS3} (io), 44 GPIOD2/~{CS4} (io), 45 GPIOD3/~{CS5} (io), 46 GPIOD4/~{CS6} (io), 47 GPIOD5/~{CS7} (io), 48 ISB0/GPIOD10 (io), 50 ISB1/GPIOD11 (io), 51 ISB2/GPIOD12 (io), 52 ~{IRQA} (in), 53 ~{IRQB} (in), 54 FAULTB0 (in), 55 FAULTB1 (in), 56 FAULTB2 (in), 57 FAULTB3 (in), 58 PWMA0 (out), 60 PWMA1 (out), 61 PWMA2 (out), 63 PWMA3 (out), 64 PWMA4 (out), 66 PWMA5 (out), 67 FAULTA0 (in), 68 FAULTA1 (in), 69 FAULTA2 (in), 70 FAULTA3 (in), 71 OCR_DIS (in), 73 XTAL (io), 74 EXTAL (in), 77 ~{RSTO} (out), 78 ~{RESET} (in), 79 CLKMODE (in), 80 ANA0 (in), 81 ANA1 (in), 82 ANA2 (in), 83 ANA3 (in), 84 ANA4 (in), 85 ANA5 (in), 86 ANA6 (in), 87 ANA7 (in), 88 TEMP_SENSE (out), 89 VREFLO (power), 90 VREFN (power), 91 VREFMID (power), 92 VREFP (power), 93 VREFH (power), 96 ANB0 (in), 97 ANB1 (in), 98 ANB2 (in), 99 ANB3 (in), 100 ANB4 (in), 101 ANB5 (in), 102 ANB6 (in), 103 ANB7 (in), 104 ISA0/GPIOC8 (io), 105 ISA1/GPIOC9 (io), 106 ISA2/GPIOC10 (io), 107 TD0/GPIOE10 (io), 108 TD1/GPIOE11 (io), 109 TD2/GPIOE12 (io), 110 TD3/GPIOE13 (io), 111 TC0/GPIOE8 (io), 113 TC1/GPIOE9 (io), 114 ~{TRST} (in), 115 TCK (in), 116 TMS (in), 117 TDI (in), 118 TDO (out), 119 VPP1 (in), 120 CAN_TX (out), 121 CAN_RX (in), 123 ~{SS0}/GPIOE7 (io), 124 SCLK0/GPIOE4 (io), 125 MISO0/GPIOE6 (io), 126 MOSI0/GPIOE5 (io), 127 PHASEA0/TA0/GPIOC4 (io), 128 PHASEB0/TA1/GPIOC5 (io)
part B pins: 3 VSS (power), 4 VDD_IO (power), 13 VCAP4 (power), 14 VDD_IO (power), 21 VSS (power), 25 VDD_IO (power), 35 VSS (power), 36 VDD_IO (power), 49 VCAP1 (power), 59 VSS (power), 62 VDD_IO (power), 65 VSS (power), 72 VDDA_OSC_PLL (power), 75 VCAP3 (power), 76 VDD_IO (power), 94 VDDA_ADC (power), 95 VSSA_ADC (power), 112 VDD_IO (power), 122 VCAP2 (power)

## MC56F8345MFGE
designator U?
16-Bit Digital Signal Controller, 56800E Family,  60 MHz, 12KB RAM, 128KB Flash, 3.0–3.6 V, -40° to + 125° C, 128-Pin LQFP; DatasheetVersion: rev17, Jan-2007; PackageVersion: 12/12/1994; PackageReference: 1129-01; PackageDescription: 128-Pin Thin Quad Flat Pack Rectangular 0.5 mm Pitch; ComponentLink1Description: Manufacturer URL; ComponentLink1URL: http://www.freescale.com/; ComponentLink2Description: Datasheet; ComponentLink2URL: http://cache.freescale.com/files/dsp/doc/data_sheet/MC56F8345.pdf?fpsp=1
footprint 1129-01_N (Thin QFP, 128-Leads, Body 20x14 mm, Pitch 0.5mm, IPC Medium Density)
footprint 1129-01_L (Thin QFP, 128-Leads, Body 20x14 mm, Pitch 0.5mm, IPC High Density)
footprint 1129-01_M (Thin QFP, 128-Leads, Body 20x14 mm, Pitch 0.5mm, IPC Low Density)
part A pins: 1 INDEX0/TA2/GPIOC6 (io), 2 HOME0/TA3/GPIOC7 (io), 5 VPP2 (in), 6 CLKO (out), 7 TXD0/GPIOE0 (io), 8 RXD0/GPIOE1 (io), 9 PHASEA1/TB0/SCLK1/GPIOC0 (io), 10 PHASEB1/TB1/MOSI1/GPIOC1 (io), 11 INDEX1/TB2/MISO1/GPIOC2 (io), 12 HOME1/TB3/~{SS1}/GPIOC3 (io), 15 A8/GPIOA0 (io), 16 A9/GPIOA1 (io), 17 A10/GPIOA2 (io), 18 A11/GPIOA3 (io), 19 A12/GPIOA4 (io), 20 A13/GPIOA5 (io), 22 D7/GPIOF0 (io), 23 D8/GPIOF1 (io), 24 D9/GPIOF2 (io), 26 D10/GPIOF3 (io), 27 GPIOB0/A16 (io), 28 GPIOB1/A17 (io), 29 GPIOB2/A18 (io), 30 GPIOB3/A19 (io), 31 GPIOB4/A20/PRESCALER_CLOCK (io), 32 PWMB0 (out), 33 PWMB1 (out), 34 PWMB2 (out), 37 PWMB3 (out), 38 PWMB4 (out), 39 PWMB5 (out), 40 TXD1/GPIOD6 (io), 41 RXD1/GPIOD7 (io), 42 GPIOD0/~{CS2} (io), 43 GPIOD1/~{CS3} (io), 44 GPIOD2/~{CS4} (io), 45 GPIOD3/~{CS5} (io), 46 GPIOD4/~{CS6} (io), 47 GPIOD5/~{CS7} (io), 48 ISB0/GPIOD10 (io), 50 ISB1/GPIOD11 (io), 51 ISB2/GPIOD12 (io), 52 ~{IRQA} (in), 53 ~{IRQB} (in), 54 FAULTB0 (in), 55 FAULTB1 (in), 56 FAULTB2 (in), 57 FAULTB3 (in), 58 PWMA0 (out), 60 PWMA1 (out), 61 PWMA2 (out), 63 PWMA3 (out), 64 PWMA4 (out), 66 PWMA5 (out), 67 FAULTA0 (in), 68 FAULTA1 (in), 69 FAULTA2 (in), 70 FAULTA3 (in), 71 OCR_DIS (in), 73 XTAL (io), 74 EXTAL (in), 77 ~{RSTO} (out), 78 ~{RESET} (in), 79 CLKMODE (in), 80 ANA0 (in), 81 ANA1 (in), 82 ANA2 (in), 83 ANA3 (in), 84 ANA4 (in), 85 ANA5 (in), 86 ANA6 (in), 87 ANA7 (in), 88 TEMP_SENSE (out), 89 VREFLO (power), 90 VREFN (power), 91 VREFMID (power), 92 VREFP (power), 93 VREFH (power), 96 ANB0 (in), 97 ANB1 (in), 98 ANB2 (in), 99 ANB3 (in), 100 ANB4 (in), 101 ANB5 (in), 102 ANB6 (in), 103 ANB7 (in), 104 ISA0/GPIOC8 (io), 105 ISA1/GPIOC9 (io), 106 ISA2/GPIOC10 (io), 107 TD0/GPIOE10 (io), 108 TD1/GPIOE11 (io), 109 TD2/GPIOE12 (io), 110 TD3/GPIOE13 (io), 111 TC0/GPIOE8 (io), 113 TC1/GPIOE9 (io), 114 ~{TRST} (in), 115 TCK (in), 116 TMS (in), 117 TDI (in), 118 TDO (out), 119 VPP1 (in), 120 CAN_TX (out), 121 CAN_RX (in), 123 ~{SS0}/GPIOE7 (io), 124 SCLK0/GPIOE4 (io), 125 MISO0/GPIOE6 (io), 126 MOSI0/GPIOE5 (io), 127 PHASEA0/TA0/GPIOC4 (io), 128 PHASEB0/TA1/GPIOC5 (io)
part B pins: 3 VSS (power), 4 VDD_IO (power), 13 VCAP4 (power), 14 VDD_IO (power), 21 VSS (power), 25 VDD_IO (power), 35 VSS (power), 36 VDD_IO (power), 49 VCAP1 (power), 59 VSS (power), 62 VDD_IO (power), 65 VSS (power), 72 VDDA_OSC_PLL (power), 75 VCAP3 (power), 76 VDD_IO (power), 94 VDDA_ADC (power), 95 VSSA_ADC (power), 112 VDD_IO (power), 122 VCAP2 (power)

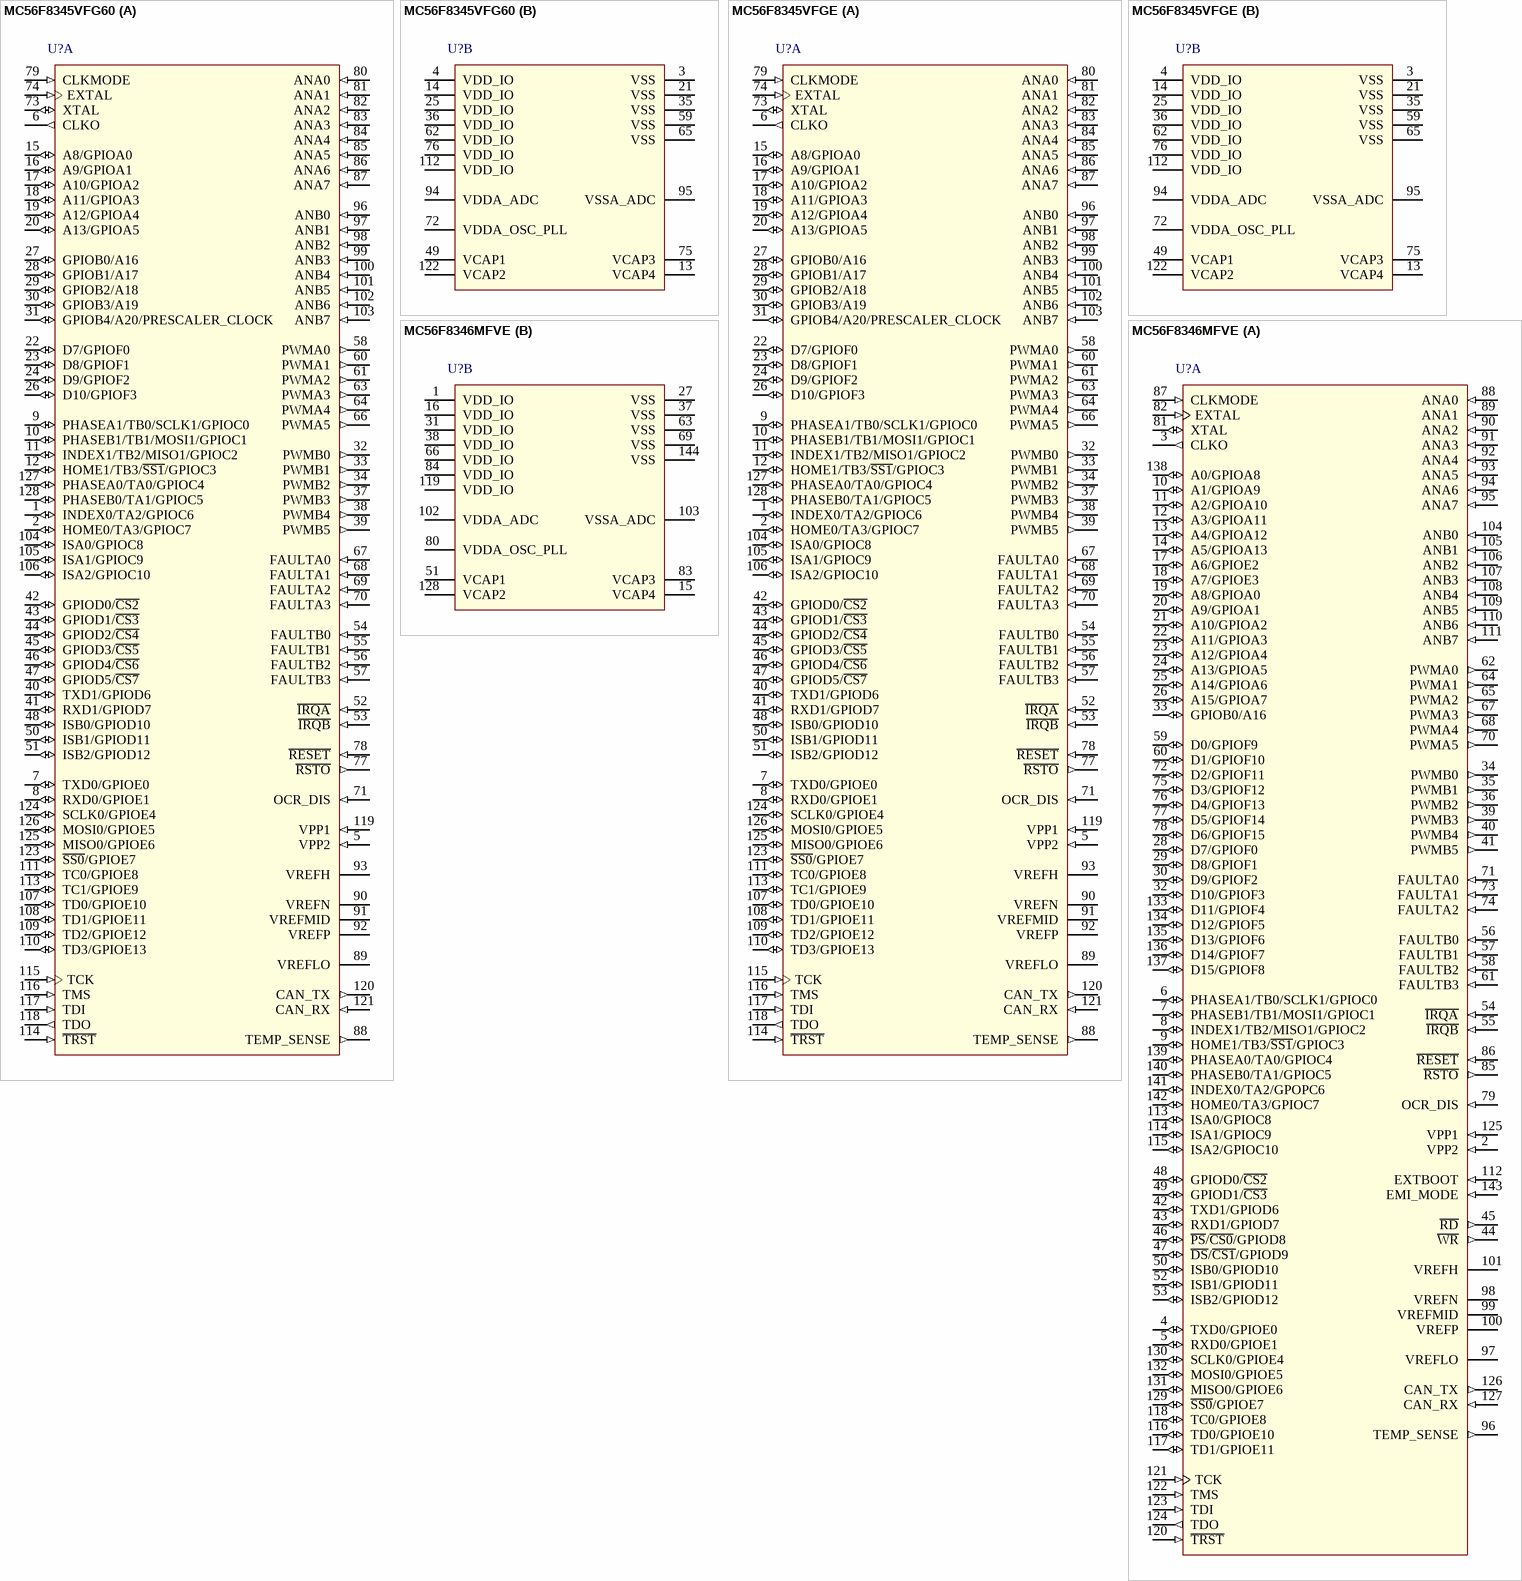
[diagram p23: symbols MC56F8345VFG60 to MC56F8346MFVE]

## MC56F8345VFG60
designator U?
16-Bit Digital Signal Controller, 56800E Family,  60 MHz, 12KB RAM, 128KB Flash, 3.0–3.6 V, -40° to + 105° C, 128-Pin LQFP; DatasheetVersion: rev17, Jan-2007; PackageVersion: 12/12/1994; PackageReference: 1129-01; PackageDescription: 128-Pin Thin Quad Flat Pack Rectangular 0.5 mm Pitch; ComponentLink1Description: Manufacturer URL; ComponentLink1URL: http://www.freescale.com/; ComponentLink2Description: Datasheet; ComponentLink2URL: http://cache.freescale.com/files/dsp/doc/data_sheet/MC56F8345.pdf?fpsp=1
footprint 1129-01_N (Thin QFP, 128-Leads, Body 20x14 mm, Pitch 0.5mm, IPC Medium Density)
footprint 1129-01_L (Thin QFP, 128-Leads, Body 20x14 mm, Pitch 0.5mm, IPC High Density)
footprint 1129-01_M (Thin QFP, 128-Leads, Body 20x14 mm, Pitch 0.5mm, IPC Low Density)
part A pins: 1 INDEX0/TA2/GPIOC6 (io), 2 HOME0/TA3/GPIOC7 (io), 5 VPP2 (in), 6 CLKO (out), 7 TXD0/GPIOE0 (io), 8 RXD0/GPIOE1 (io), 9 PHASEA1/TB0/SCLK1/GPIOC0 (io), 10 PHASEB1/TB1/MOSI1/GPIOC1 (io), 11 INDEX1/TB2/MISO1/GPIOC2 (io), 12 HOME1/TB3/~{SS1}/GPIOC3 (io), 15 A8/GPIOA0 (io), 16 A9/GPIOA1 (io), 17 A10/GPIOA2 (io), 18 A11/GPIOA3 (io), 19 A12/GPIOA4 (io), 20 A13/GPIOA5 (io), 22 D7/GPIOF0 (io), 23 D8/GPIOF1 (io), 24 D9/GPIOF2 (io), 26 D10/GPIOF3 (io), 27 GPIOB0/A16 (io), 28 GPIOB1/A17 (io), 29 GPIOB2/A18 (io), 30 GPIOB3/A19 (io), 31 GPIOB4/A20/PRESCALER_CLOCK (io), 32 PWMB0 (out), 33 PWMB1 (out), 34 PWMB2 (out), 37 PWMB3 (out), 38 PWMB4 (out), 39 PWMB5 (out), 40 TXD1/GPIOD6 (io), 41 RXD1/GPIOD7 (io), 42 GPIOD0/~{CS2} (io), 43 GPIOD1/~{CS3} (io), 44 GPIOD2/~{CS4} (io), 45 GPIOD3/~{CS5} (io), 46 GPIOD4/~{CS6} (io), 47 GPIOD5/~{CS7} (io), 48 ISB0/GPIOD10 (io), 50 ISB1/GPIOD11 (io), 51 ISB2/GPIOD12 (io), 52 ~{IRQA} (in), 53 ~{IRQB} (in), 54 FAULTB0 (in), 55 FAULTB1 (in), 56 FAULTB2 (in), 57 FAULTB3 (in), 58 PWMA0 (out), 60 PWMA1 (out), 61 PWMA2 (out), 63 PWMA3 (out), 64 PWMA4 (out), 66 PWMA5 (out), 67 FAULTA0 (in), 68 FAULTA1 (in), 69 FAULTA2 (in), 70 FAULTA3 (in), 71 OCR_DIS (in), 73 XTAL (io), 74 EXTAL (in), 77 ~{RSTO} (out), 78 ~{RESET} (in), 79 CLKMODE (in), 80 ANA0 (in), 81 ANA1 (in), 82 ANA2 (in), 83 ANA3 (in), 84 ANA4 (in), 85 ANA5 (in), 86 ANA6 (in), 87 ANA7 (in), 88 TEMP_SENSE (out), 89 VREFLO (power), 90 VREFN (power), 91 VREFMID (power), 92 VREFP (power), 93 VREFH (power), 96 ANB0 (in), 97 ANB1 (in), 98 ANB2 (in), 99 ANB3 (in), 100 ANB4 (in), 101 ANB5 (in), 102 ANB6 (in), 103 ANB7 (in), 104 ISA0/GPIOC8 (io), 105 ISA1/GPIOC9 (io), 106 ISA2/GPIOC10 (io), 107 TD0/GPIOE10 (io), 108 TD1/GPIOE11 (io), 109 TD2/GPIOE12 (io), 110 TD3/GPIOE13 (io), 111 TC0/GPIOE8 (io), 113 TC1/GPIOE9 (io), 114 ~{TRST} (in), 115 TCK (in), 116 TMS (in), 117 TDI (in), 118 TDO (out), 119 VPP1 (in), 120 CAN_TX (out), 121 CAN_RX (in), 123 ~{SS0}/GPIOE7 (io), 124 SCLK0/GPIOE4 (io), 125 MISO0/GPIOE6 (io), 126 MOSI0/GPIOE5 (io), 127 PHASEA0/TA0/GPIOC4 (io), 128 PHASEB0/TA1/GPIOC5 (io)
part B pins: 3 VSS (power), 4 VDD_IO (power), 13 VCAP4 (power), 14 VDD_IO (power), 21 VSS (power), 25 VDD_IO (power), 35 VSS (power), 36 VDD_IO (power), 49 VCAP1 (power), 59 VSS (power), 62 VDD_IO (power), 65 VSS (power), 72 VDDA_OSC_PLL (power), 75 VCAP3 (power), 76 VDD_IO (power), 94 VDDA_ADC (power), 95 VSSA_ADC (power), 112 VDD_IO (power), 122 VCAP2 (power)

## MC56F8345VFGE
designator U?
16-Bit Digital Signal Controller, 56800E Family,  60 MHz, 12KB RAM, 128KB Flash, 3.0–3.6 V, -40° to + 105° C, 128-Pin LQFP; DatasheetVersion: rev17, Jan-2007; PackageVersion: 12/12/1994; PackageReference: 1129-01; PackageDescription: 128-Pin Thin Quad Flat Pack Rectangular 0.5 mm Pitch; ComponentLink1Description: Manufacturer URL; ComponentLink1URL: http://www.freescale.com/; ComponentLink2Description: Datasheet; ComponentLink2URL: http://cache.freescale.com/files/dsp/doc/data_sheet/MC56F8345.pdf?fpsp=1
footprint 1129-01_N (Thin QFP, 128-Leads, Body 20x14 mm, Pitch 0.5mm, IPC Medium Density)
footprint 1129-01_L (Thin QFP, 128-Leads, Body 20x14 mm, Pitch 0.5mm, IPC High Density)
footprint 1129-01_M (Thin QFP, 128-Leads, Body 20x14 mm, Pitch 0.5mm, IPC Low Density)
part A pins: 1 INDEX0/TA2/GPIOC6 (io), 2 HOME0/TA3/GPIOC7 (io), 5 VPP2 (in), 6 CLKO (out), 7 TXD0/GPIOE0 (io), 8 RXD0/GPIOE1 (io), 9 PHASEA1/TB0/SCLK1/GPIOC0 (io), 10 PHASEB1/TB1/MOSI1/GPIOC1 (io), 11 INDEX1/TB2/MISO1/GPIOC2 (io), 12 HOME1/TB3/~{SS1}/GPIOC3 (io), 15 A8/GPIOA0 (io), 16 A9/GPIOA1 (io), 17 A10/GPIOA2 (io), 18 A11/GPIOA3 (io), 19 A12/GPIOA4 (io), 20 A13/GPIOA5 (io), 22 D7/GPIOF0 (io), 23 D8/GPIOF1 (io), 24 D9/GPIOF2 (io), 26 D10/GPIOF3 (io), 27 GPIOB0/A16 (io), 28 GPIOB1/A17 (io), 29 GPIOB2/A18 (io), 30 GPIOB3/A19 (io), 31 GPIOB4/A20/PRESCALER_CLOCK (io), 32 PWMB0 (out), 33 PWMB1 (out), 34 PWMB2 (out), 37 PWMB3 (out), 38 PWMB4 (out), 39 PWMB5 (out), 40 TXD1/GPIOD6 (io), 41 RXD1/GPIOD7 (io), 42 GPIOD0/~{CS2} (io), 43 GPIOD1/~{CS3} (io), 44 GPIOD2/~{CS4} (io), 45 GPIOD3/~{CS5} (io), 46 GPIOD4/~{CS6} (io), 47 GPIOD5/~{CS7} (io), 48 ISB0/GPIOD10 (io), 50 ISB1/GPIOD11 (io), 51 ISB2/GPIOD12 (io), 52 ~{IRQA} (in), 53 ~{IRQB} (in), 54 FAULTB0 (in), 55 FAULTB1 (in), 56 FAULTB2 (in), 57 FAULTB3 (in), 58 PWMA0 (out), 60 PWMA1 (out), 61 PWMA2 (out), 63 PWMA3 (out), 64 PWMA4 (out), 66 PWMA5 (out), 67 FAULTA0 (in), 68 FAULTA1 (in), 69 FAULTA2 (in), 70 FAULTA3 (in), 71 OCR_DIS (in), 73 XTAL (io), 74 EXTAL (in), 77 ~{RSTO} (out), 78 ~{RESET} (in), 79 CLKMODE (in), 80 ANA0 (in), 81 ANA1 (in), 82 ANA2 (in), 83 ANA3 (in), 84 ANA4 (in), 85 ANA5 (in), 86 ANA6 (in), 87 ANA7 (in), 88 TEMP_SENSE (out), 89 VREFLO (power), 90 VREFN (power), 91 VREFMID (power), 92 VREFP (power), 93 VREFH (power), 96 ANB0 (in), 97 ANB1 (in), 98 ANB2 (in), 99 ANB3 (in), 100 ANB4 (in), 101 ANB5 (in), 102 ANB6 (in), 103 ANB7 (in), 104 ISA0/GPIOC8 (io), 105 ISA1/GPIOC9 (io), 106 ISA2/GPIOC10 (io), 107 TD0/GPIOE10 (io), 108 TD1/GPIOE11 (io), 109 TD2/GPIOE12 (io), 110 TD3/GPIOE13 (io), 111 TC0/GPIOE8 (io), 113 TC1/GPIOE9 (io), 114 ~{TRST} (in), 115 TCK (in), 116 TMS (in), 117 TDI (in), 118 TDO (out), 119 VPP1 (in), 120 CAN_TX (out), 121 CAN_RX (in), 123 ~{SS0}/GPIOE7 (io), 124 SCLK0/GPIOE4 (io), 125 MISO0/GPIOE6 (io), 126 MOSI0/GPIOE5 (io), 127 PHASEA0/TA0/GPIOC4 (io), 128 PHASEB0/TA1/GPIOC5 (io)
part B pins: 3 VSS (power), 4 VDD_IO (power), 13 VCAP4 (power), 14 VDD_IO (power), 21 VSS (power), 25 VDD_IO (power), 35 VSS (power), 36 VDD_IO (power), 49 VCAP1 (power), 59 VSS (power), 62 VDD_IO (power), 65 VSS (power), 72 VDDA_OSC_PLL (power), 75 VCAP3 (power), 76 VDD_IO (power), 94 VDDA_ADC (power), 95 VSSA_ADC (power), 112 VDD_IO (power), 122 VCAP2 (power)

## MC56F8346MFVE
designator U?
16-Bit Digital Signal Controller, 56800E Family,  60 MHz, 12KB RAM, 128KB Flash, 3.0–3.6 V, -40° to + 125° C, 144-Pin LQFP; DatasheetVersion: rev15, Jan-2007; PackageVersion: revG, Nov-2009; PackageReference: 918-03; PackageDescription: 144-Pin Thin Quad Flat Pack, 20 x 20 mm Body, 0.5 mm Pitch; ComponentLink1Description: Manufacturer URL; ComponentLink1URL: http://www.freescale.com/; ComponentLink2Description: Datasheet; ComponentLink2URL: http://cache.freescale.com/files/dsp/doc/data_sheet/MC56F8346.pdf?fpsp=1
footprint 918-03_N (Thin QFP, 144-Leads, Body 20x20mm, Pitch 0.5mm, IPC Medium Density)
footprint 918-03_L (Thin QFP, 144-Leads, Body 20x20mm, Pitch 0.5mm, IPC High Density)
footprint 918-03_M (Thin QFP, 144-Leads, Body 20x20mm, Pitch 0.5mm, IPC Low Density)
part A pins: 2 VPP2 (in), 3 CLKO (out), 4 TXD0/GPIOE0 (io), 5 RXD0/GPIOE1 (io), 6 PHASEA1/TB0/SCLK1/GPIOC0 (io), 7 PHASEB1/TB1/MOSI1/GPIOC1 (io), 8 INDEX1/TB2/MISO1/GPIOC2 (io), 9 HOME1/TB3/~{SS1}/GPIOC3 (io), 10 A1/GPIOA9 (io), 11 A2/GPIOA10 (io), 12 A3/GPIOA11 (io), 13 A4/GPIOA12 (io), 14 A5/GPIOA13 (io), 17 A6/GPIOE2 (io), 18 A7/GPIOE3 (io), 19 A8/GPIOA0 (io), 20 A9/GPIOA1 (io), 21 A10/GPIOA2 (io), 22 A11/GPIOA3 (io), 23 A12/GPIOA4 (io), 24 A13/GPIOA5 (io), 25 A14/GPIOA6 (io), 26 A15/GPIOA7 (io), 28 D7/GPIOF0 (io), 29 D8/GPIOF1 (io), 30 D9/GPIOF2 (io), 32 D10/GPIOF3 (io), 33 GPIOB0/A16 (io), 34 PWMB0 (out), 35 PWMB1 (out), 36 PWMB2 (out), 39 PWMB3 (out), 40 PWMB4 (out), 41 PWMB5 (out), 42 TXD1/GPIOD6 (io), 43 RXD1/GPIOD7 (io), 44 ~{WR} (out), 45 ~{RD} (out), 46 ~{PS}/~{CS0}/GPIOD8 (io), 47 ~{DS}/~{CS1}/GPIOD9 (io), 48 GPIOD0/~{CS2} (io), 49 GPIOD1/~{CS3} (io), 50 ISB0/GPIOD10 (io), 52 ISB1/GPIOD11 (io), 53 ISB2/GPIOD12 (io), 54 ~{IRQA} (in), 55 ~{IRQB} (in), 56 FAULTB0 (in), 57 FAULTB1 (in), 58 FAULTB2 (in), 59 D0/GPIOF9 (io), 60 D1/GPIOF10 (io), 61 FAULTB3 (in), 62 PWMA0 (out), 64 PWMA1 (out), 65 PWMA2 (out), 67 PWMA3 (out), 68 PWMA4 (out), 70 PWMA5 (out), 71 FAULTA0 (in), 72 D2/GPIOF11 (io), 73 FAULTA1 (in), 74 FAULTA2 (in), 75 D3/GPIOF12 (io), 76 D4/GPIOF13 (io), 77 D5/GPIOF14 (io), 78 D6/GPIOF15 (io), 79 OCR_DIS (in), 81 XTAL (io), 82 EXTAL (in), 85 ~{RSTO} (out), 86 ~{RESET} (in), 87 CLKMODE (in), 88 ANA0 (in), 89 ANA1 (in), 90 ANA2 (in), 91 ANA3 (in), 92 ANA4 (in), 93 ANA5 (in), 94 ANA6 (in), 95 ANA7 (in), 96 TEMP_SENSE (out), 97 VREFLO (power), 98 VREFN (power), 99 VREFMID (power), 100 VREFP (power), 101 VREFH (power), 104 ANB0 (in), 105 ANB1 (in), 106 ANB2 (in), 107 ANB3 (in), 108 ANB4 (in), 109 ANB5 (in), 110 ANB6 (in), 111 ANB7 (in), 112 EXTBOOT (in), 113 ISA0/GPIOC8 (io), 114 ISA1/GPIOC9 (io), 115 ISA2/GPIOC10 (io), 116 TD0/GPIOE10 (io), 117 TD1/GPIOE11 (io), 118 TC0/GPIOE8 (io), 120 ~{TRST} (in), 121 TCK (in), 122 TMS (in), 123 TDI (in), 124 TDO (out), 125 VPP1 (in), 126 CAN_TX (out), 127 CAN_RX (in), 129 ~{SS0}/GPIOE7 (io), 130 SCLK0/GPIOE4 (io), 131 MISO0/GPIOE6 (io), 132 MOSI0/GPIOE5 (io), 133 D11/GPIOF4 (io), 134 D12/GPIOF5 (io), 135 D13/GPIOF6 (io), 136 D14/GPIOF7 (io), 137 D15/GPIOF8 (io), 138 A0/GPIOA8 (io), 139 PHASEA0/TA0/GPIOC4 (io), 140 PHASEB0/TA1/GPIOC5 (io), 141 INDEX0/TA2/GPOPC6 (io), 142 HOME0/TA3/GPIOC7 (io), 143 EMI_MODE (in)
part B pins: 1 VDD_IO (power), 15 VCAP4 (power), 16 VDD_IO (power), 27 VSS (power), 31 VDD_IO (power), 37 VSS (power), 38 VDD_IO (power), 51 VCAP1 (power), 63 VSS (power), 66 VDD_IO (power), 69 VSS (power), 80 VDDA_OSC_PLL (power), 83 VCAP3 (power), 84 VDD_IO (power), 102 VDDA_ADC (power), 103 VSSA_ADC (power), 119 VDD_IO (power), 128 VCAP2 (power), 144 VSS (power)

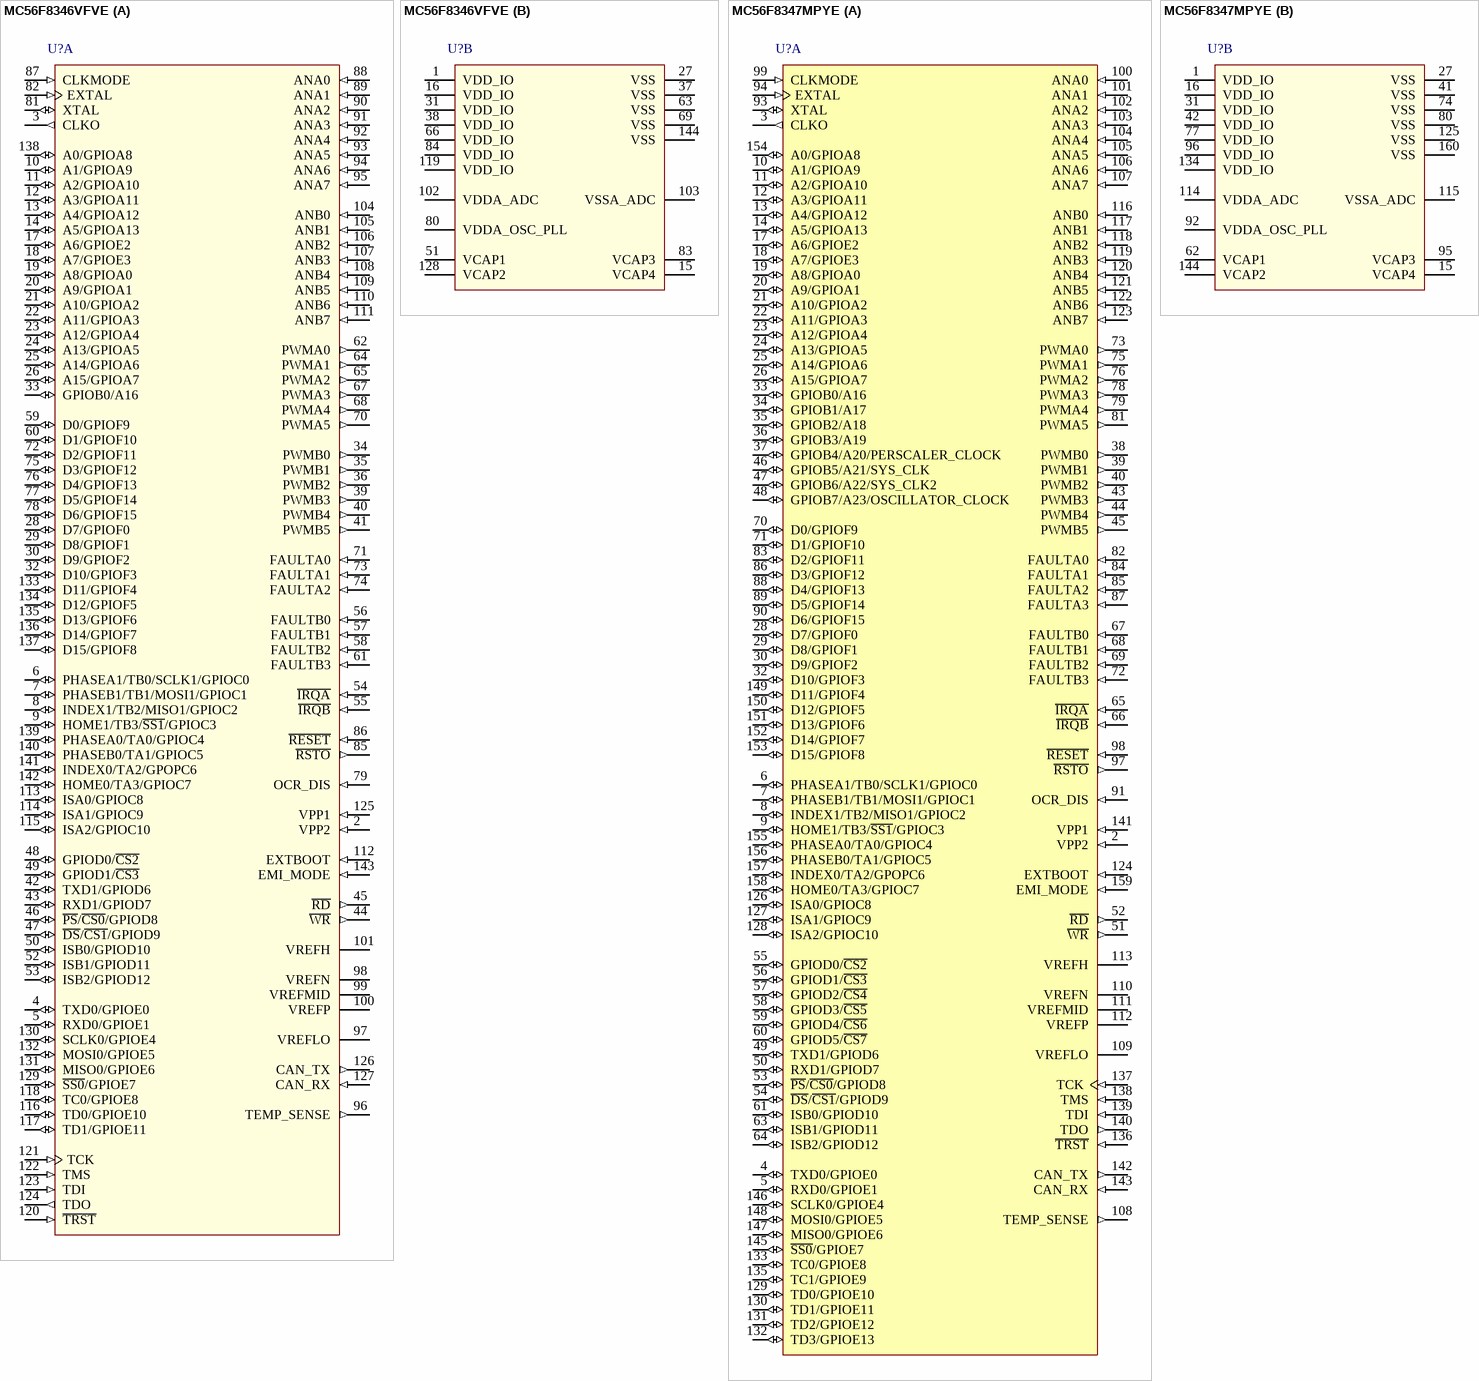
[diagram p24: symbols MC56F8346VFVE to MC56F8347MPYE]

## MC56F8346VFVE
designator U?
16-Bit Digital Signal Controller, 56800E Family,  60 MHz, 12KB RAM, 128KB Flash, 3.0–3.6 V, -40° to + 105° C, 144-Pin LQFP; DatasheetVersion: rev15, Jan-2007; PackageVersion: revG, Nov-2009; PackageReference: 918-03; PackageDescription: 144-Pin Thin Quad Flat Pack, 20 x 20 mm Body, 0.5 mm Pitch; ComponentLink1Description: Manufacturer URL; ComponentLink1URL: http://www.freescale.com/; ComponentLink2Description: Datasheet; ComponentLink2URL: http://cache.freescale.com/files/dsp/doc/data_sheet/MC56F8346.pdf?fpsp=1
footprint 918-03_N (Thin QFP, 144-Leads, Body 20x20mm, Pitch 0.5mm, IPC Medium Density)
footprint 918-03_L (Thin QFP, 144-Leads, Body 20x20mm, Pitch 0.5mm, IPC High Density)
footprint 918-03_M (Thin QFP, 144-Leads, Body 20x20mm, Pitch 0.5mm, IPC Low Density)
part A pins: 2 VPP2 (in), 3 CLKO (out), 4 TXD0/GPIOE0 (io), 5 RXD0/GPIOE1 (io), 6 PHASEA1/TB0/SCLK1/GPIOC0 (io), 7 PHASEB1/TB1/MOSI1/GPIOC1 (io), 8 INDEX1/TB2/MISO1/GPIOC2 (io), 9 HOME1/TB3/~{SS1}/GPIOC3 (io), 10 A1/GPIOA9 (io), 11 A2/GPIOA10 (io), 12 A3/GPIOA11 (io), 13 A4/GPIOA12 (io), 14 A5/GPIOA13 (io), 17 A6/GPIOE2 (io), 18 A7/GPIOE3 (io), 19 A8/GPIOA0 (io), 20 A9/GPIOA1 (io), 21 A10/GPIOA2 (io), 22 A11/GPIOA3 (io), 23 A12/GPIOA4 (io), 24 A13/GPIOA5 (io), 25 A14/GPIOA6 (io), 26 A15/GPIOA7 (io), 28 D7/GPIOF0 (io), 29 D8/GPIOF1 (io), 30 D9/GPIOF2 (io), 32 D10/GPIOF3 (io), 33 GPIOB0/A16 (io), 34 PWMB0 (out), 35 PWMB1 (out), 36 PWMB2 (out), 39 PWMB3 (out), 40 PWMB4 (out), 41 PWMB5 (out), 42 TXD1/GPIOD6 (io), 43 RXD1/GPIOD7 (io), 44 ~{WR} (out), 45 ~{RD} (out), 46 ~{PS}/~{CS0}/GPIOD8 (io), 47 ~{DS}/~{CS1}/GPIOD9 (io), 48 GPIOD0/~{CS2} (io), 49 GPIOD1/~{CS3} (io), 50 ISB0/GPIOD10 (io), 52 ISB1/GPIOD11 (io), 53 ISB2/GPIOD12 (io), 54 ~{IRQA} (in), 55 ~{IRQB} (in), 56 FAULTB0 (in), 57 FAULTB1 (in), 58 FAULTB2 (in), 59 D0/GPIOF9 (io), 60 D1/GPIOF10 (io), 61 FAULTB3 (in), 62 PWMA0 (out), 64 PWMA1 (out), 65 PWMA2 (out), 67 PWMA3 (out), 68 PWMA4 (out), 70 PWMA5 (out), 71 FAULTA0 (in), 72 D2/GPIOF11 (io), 73 FAULTA1 (in), 74 FAULTA2 (in), 75 D3/GPIOF12 (io), 76 D4/GPIOF13 (io), 77 D5/GPIOF14 (io), 78 D6/GPIOF15 (io), 79 OCR_DIS (in), 81 XTAL (io), 82 EXTAL (in), 85 ~{RSTO} (out), 86 ~{RESET} (in), 87 CLKMODE (in), 88 ANA0 (in), 89 ANA1 (in), 90 ANA2 (in), 91 ANA3 (in), 92 ANA4 (in), 93 ANA5 (in), 94 ANA6 (in), 95 ANA7 (in), 96 TEMP_SENSE (out), 97 VREFLO (power), 98 VREFN (power), 99 VREFMID (power), 100 VREFP (power), 101 VREFH (power), 104 ANB0 (in), 105 ANB1 (in), 106 ANB2 (in), 107 ANB3 (in), 108 ANB4 (in), 109 ANB5 (in), 110 ANB6 (in), 111 ANB7 (in), 112 EXTBOOT (in), 113 ISA0/GPIOC8 (io), 114 ISA1/GPIOC9 (io), 115 ISA2/GPIOC10 (io), 116 TD0/GPIOE10 (io), 117 TD1/GPIOE11 (io), 118 TC0/GPIOE8 (io), 120 ~{TRST} (in), 121 TCK (in), 122 TMS (in), 123 TDI (in), 124 TDO (out), 125 VPP1 (in), 126 CAN_TX (out), 127 CAN_RX (in), 129 ~{SS0}/GPIOE7 (io), 130 SCLK0/GPIOE4 (io), 131 MISO0/GPIOE6 (io), 132 MOSI0/GPIOE5 (io), 133 D11/GPIOF4 (io), 134 D12/GPIOF5 (io), 135 D13/GPIOF6 (io), 136 D14/GPIOF7 (io), 137 D15/GPIOF8 (io), 138 A0/GPIOA8 (io), 139 PHASEA0/TA0/GPIOC4 (io), 140 PHASEB0/TA1/GPIOC5 (io), 141 INDEX0/TA2/GPOPC6 (io), 142 HOME0/TA3/GPIOC7 (io), 143 EMI_MODE (in)
part B pins: 1 VDD_IO (power), 15 VCAP4 (power), 16 VDD_IO (power), 27 VSS (power), 31 VDD_IO (power), 37 VSS (power), 38 VDD_IO (power), 51 VCAP1 (power), 63 VSS (power), 66 VDD_IO (power), 69 VSS (power), 80 VDDA_OSC_PLL (power), 83 VCAP3 (power), 84 VDD_IO (power), 102 VDDA_ADC (power), 103 VSSA_ADC (power), 119 VDD_IO (power), 128 VCAP2 (power), 144 VSS (power)